# Altium schematic symbol library IC.SchLib: 140 symbols (part 1 of 2)
Pins are listed as number, name and electrical type; pins without a type are passive.

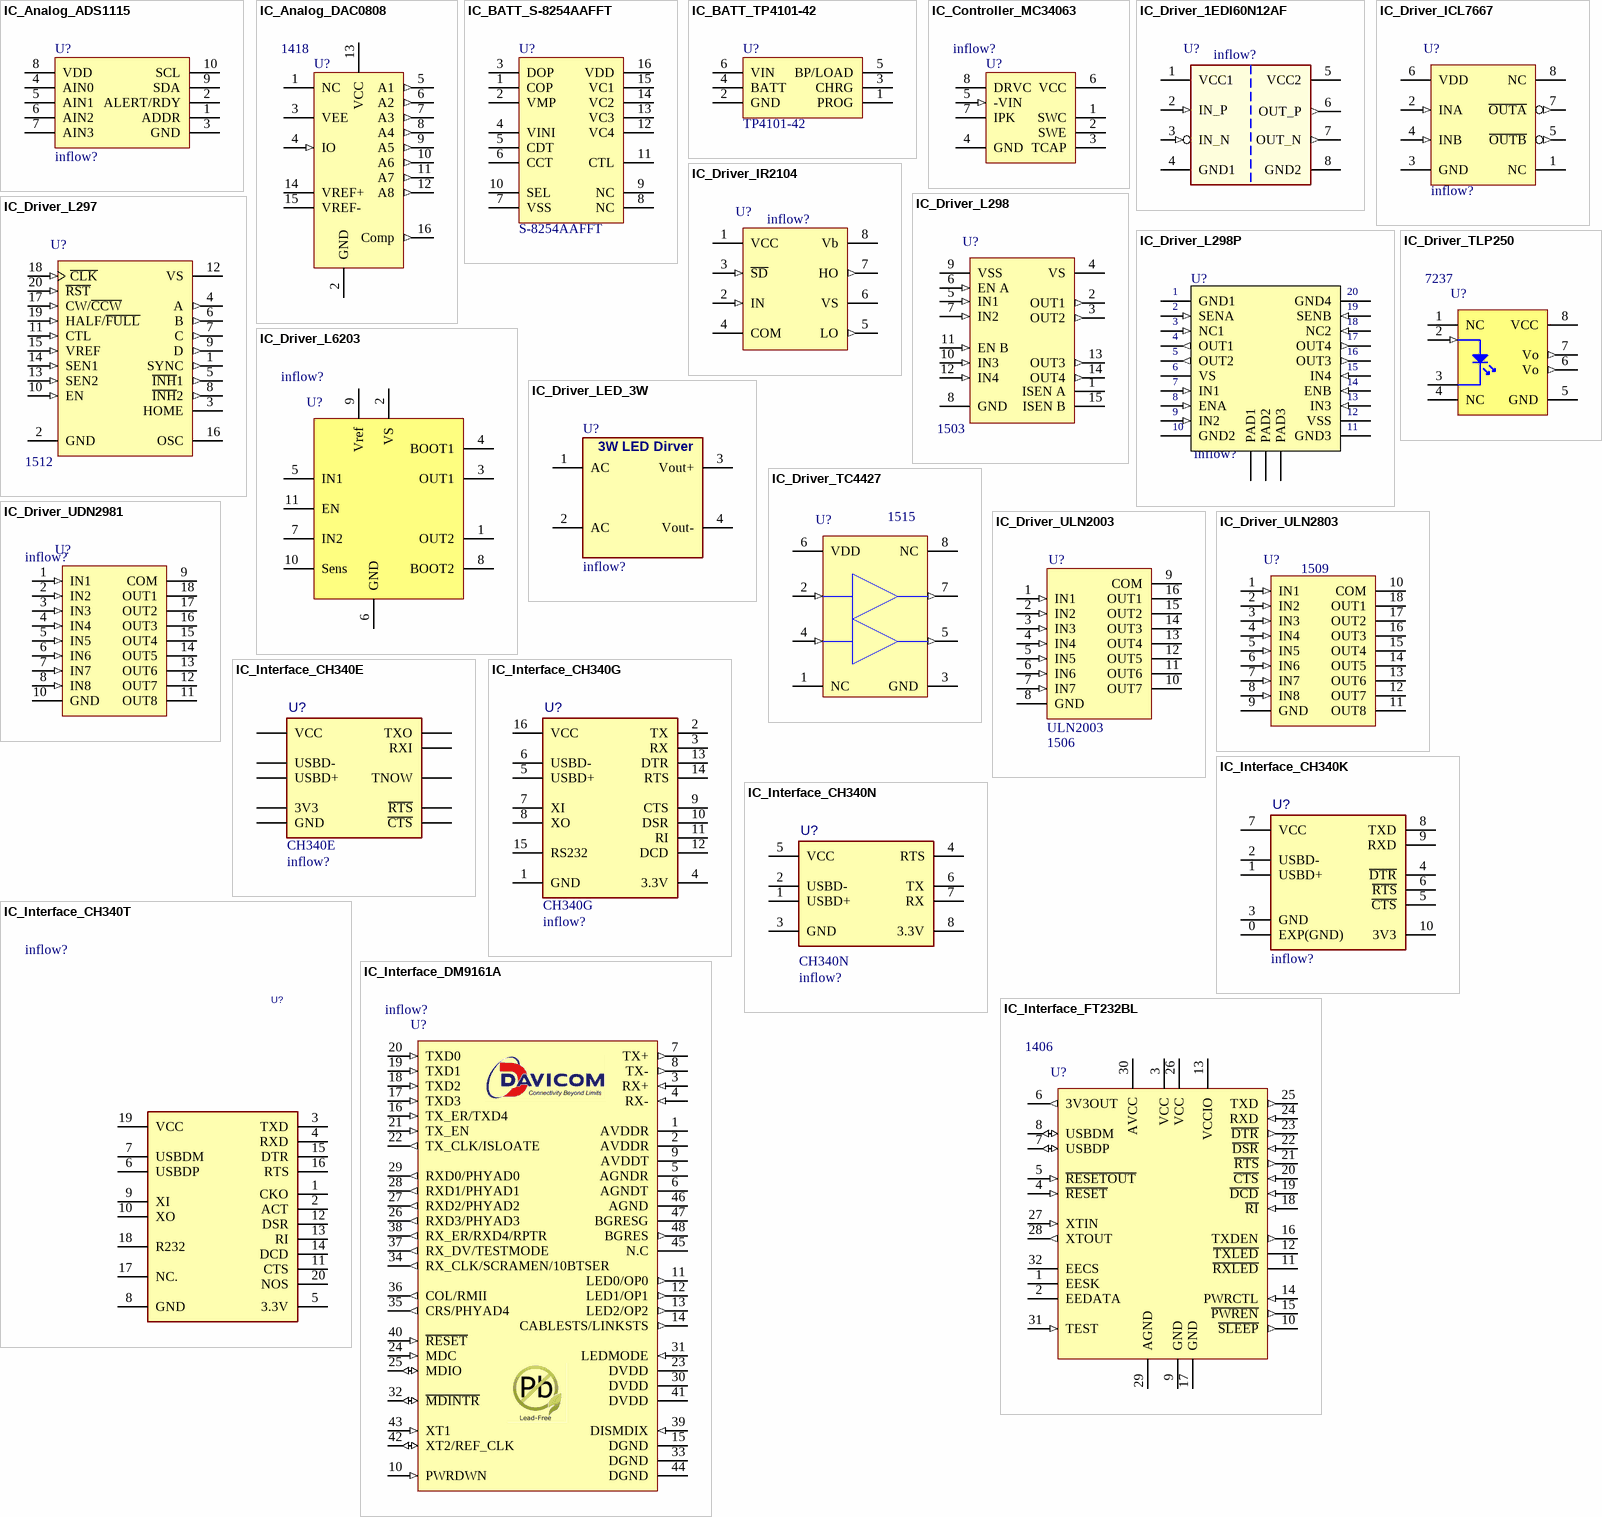
[diagram p0: symbols IC_Analog_ADS1115 to IC_Interface_FT232BL]

## IC_Analog_ADS1115
designator U?, comment Inflow: inflow?  (hidden comment: ADS1115)
16-Bit Analog-to-Digital (ADC) Converter; Rating: Rating?; Validation: NT; Type: ADC; Package: MSOP-10; Value: ADS1115
footprint MSOP-10 (Shrink Small Outline; 10 Leads; Body Width 3 mm; Pitch 0.5 mm)
pins: 1 ADDR, 2 ALERT/RDY, 3 GND, 4 AIN0, 5 AIN1, 6 AIN2, 7 AIN3, 8 VDD, 9 SDA, 10 SCL

## IC_Analog_DAC0808
designator U?, comment Inflow: 1418  (hidden comment: DAC0808)
8-bit monolithic digital-to-analog converter (DAC); Rating: Rating?; Validation: NT; Value: DAC0808; Package: Package?; Type: Type?
footprint PDIP16 (16-Pin Plastic DIP (DD16) NARROW_(300mil width) - 100mil pitch)
pins: 1 NC, 2 GND (power), 3 VEE, 4 IO (in), 5 A1 (out) "LSB", 6 A2 (out), 7 A3 (out), 8 A4 (out), 9 A5 (out), 10 A6 (out), 11 A7 (out), 12 A8 (out) "MSB", 13 VCC (power), 14 VREF+, 15 VREF-, 16 Comp (out) "Compensation"

## IC_BATT_S-8254AAFFT
designator U?, comment S-8254AAFFT
Battery Protection IC for 3 Serial or 4 Serial Cell Pack TSSOP-16; Rating: Rating?; Validation: NT; Inflow: inflow?; Type: BCM; Package: TSSOP-16; Value: S-8254AAFFT
footprint TSSOP16 (16 Pin TSSOP JDEC MO-153 Variation AC)
pins: 1 COP, 2 VMP, 3 DOP, 4 VINI, 5 CDT, 6 CCT, 7 VSS, 8 NC, 9 NC, 10 SEL, 11 CTL, 12 VC4, 13 VC3, 14 VC2, 15 VC1, 16 VDD

## IC_BATT_TP4101-42
designator U?, comment TP4101-42
TP4101 is a Chip That it has Complete Single-Cell Lithium-Ion Battery Charging Management and Discharging Protection.; Rating: Rating?; Validation: NT; Inflow: inflow?; Type: BCM; Package: SOT23-6; Value: TP4101-42
footprint SOT23-6 (SOT-457/SC-74; 6 Leads; Body 3 x 3 mm, inc. leads (LxW max))
pins: 1 PROG, 2 GND, 3 CHRG, 4 BATT, 5 BP/LOAD, 6 VIN

## IC_Controller_MC34063
designator U?, comment Inflow: inflow?  (hidden comment: MC34063AD)
DC-to-DC Converter Control Circuit; Rating: Rating?; Validation: NT; Value: MC34063AD; Package: Package?; Type: Type?
footprint 751-02_N (SOIC, 8-Leads, Body 4.9x3.9mm, Pitch 1.27mm, IPC Medium Density)
footprint 751-02_L (SOIC, 8-Leads, Body 4.9x3.9mm, Pitch 1.27mm, IPC High Density)
footprint 751-02_M (SOIC, 8-Leads, Body 4.9x3.9mm, Pitch 1.27mm, IPC Low Density)
pins: 1 SWC (oc), 2 SWE (oe), 3 TCAP, 4 GND (power), 5 -VIN (in), 6 VCC (power), 7 IPK, 8 DRVC (oc)

## IC_Driver_1EDI60N12AF
designator U?, comment Inflow: inflow?  (hidden comment: 1EDI60N12AF)
Single Channel MOSFET Gate Driver IC; Rating: Rating?; Validation: NT; Value: 1EDI60N12AF; Package: Package?; Type: Type?
footprint 1EDI60N12AF
pins: 1 VCC1 (power) "Positive Logic Supply", 2 IN_P (in) "Non-Inverting Driver Input", 3 IN_N (in) "Inverting Driver Input", 4 GND1 (power) "Logic Ground", 5 VCC2 (power) "Positive Power Supply Output Side", 6 OUT_P (out) "Driver Source Output", 7 OUT_N (out) "Driver Sink Output", 8 GND2 (power) "Power Ground"

## IC_Driver_ICL7667
designator U?, comment Inflow: inflow?  (hidden comment: ICL7667)
Dual monolithic power MOSFET driver; Rating: Rating?; Validation: NT; Value: ICL7667; Package: Package?; Type: Type?
footprint CDIP8 (8-Pin Ceramic DIP (DD8) NARROW_(300mil width) - 100mil pitch)
footprint SOIC8-Narrow (SOIC, 8-Leads, Body 3.0x3.0mm (max), Pitch 1.27mm, IPC Medium Density)
pins: 1 NC, 2 INA (in), 3 GND (power), 4 INB (in), 5 ~{OUTB} (out), 6 VDD (power), 7 ~{OUTA} (out), 8 NC

## IC_Driver_IR2104
designator U?, comment Inflow: inflow?  (hidden comment: IR2085)
high voltage, high speed power. MOSFET and IGBT drivers with dependent high and low side referenced output channels; Rating: Rating?; Validation: NT; Value: IR2085; Package: Package?; Type: Type?
footprint SOIC8-Narrow (SOIC, 8-Leads, Body 3.0x3.0mm (max), Pitch 1.27mm, IPC Medium Density)
footprint PDIP8 (8-Pin Plastic DIP (PD8) NARROW_(300mil width) - 100mil pitch)
pins: 1 VCC (power) "Low side and logic fixed supply (10'V~20'V =~ 15'V)", 2 IN (in) "Logic input for high and low side gate driver outputs (HO and LO), in phase with HO", 3 ~{SD} (in) "Logic input for shutdown", 4 COM (power) "Low Side return (GND)", 5 LO (out) "Low side gate drive output", 6 VS (power) "High side floating supply return", 7 HO (out) "High side gate drive output", 8 Vb (power) "High side floating supply"

## IC_Driver_L297
designator U?, comment Inflow: 1512  (hidden comment: L297)
Stepper motor controller; Rating: Rating?; Validation: NT; Value: L297; Package: Package?; Type: Type?
footprint CDIP20 (20-Pin Ceramic DIP (DD20) NARROW_(300mil width) - 100mil pitch)
pins: 1 SYNC (out), 2 GND (power), 3 HOME (oc), 4 A (out), 5 ~{INH}1 (out), 6 B (out), 7 C (out), 8 ~{INH}2 (out), 9 D (out), 10 EN (in), 11 CTL (in), 12 VS (power), 13 SEN2 (in), 14 SEN1 (in), 15 VREF (in), 16 OSC, 17 CW/~{CCW} (in), 18 ~{CLK} (in), 19 HALF/~{FULL} (in), 20 ~{RST} (in)

## IC_Driver_L298
designator U?, comment Inflow: 1503  (hidden comment: L298)
Dual full-bridge driver; Rating: Rating?; Validation: Valid; Value: L298; Package: Package?; Type: Type?
footprint Multiwatt15H (TO, Thru-Hole, Horizontal, Heatsink Mounted; 15 Bent Staggered Leads; Pitch 1.27 mm)
footprint Multiwatt15V (TO, Thru-Hole, Vertical, Heatsink Mounted; 15 Bent Staggered Leads; Pitch 1.27 mm)
footprint Multiwatt15V_heatsink (TO, Thru-Hole, Vertical, Heatsink Mounted; 15 Bent Staggered Leads; Pitch 1.27 mm)
pins: 1 ISEN A, 2 OUT1 (out), 3 OUT2 (out), 4 VS (power), 5 IN1 (in), 6 EN A (in), 7 IN2 (in), 8 GND (power), 9 VSS (power), 10 IN3 (in), 11 EN B (in), 12 IN4 (in), 13 OUT3 (out), 14 OUT4 (out), 15 ISEN B

## IC_Driver_L298P
designator U?, comment Inflow: inflow?  (hidden comment: L298P)
Dual full-bridge driver; Rating: Rating?; Validation: NT; Value: L298P; Package: Package?; Type: Type?
footprint L298p
pins: P$1 GND1 (power), P$2 SENA (in), P$3 NC1 (in), P$4 OUT1 (out), P$5 OUT2 (out), P$6 VS (power), P$7 IN1 (in), P$8 ENA (in), P$9 IN2 (in), P$10 GND2 (power), P$11 GND3 (power), P$12 VSS (power), P$13 IN3 (in), P$14 ENB (in), P$15 IN4 (in), P$16 OUT3 (out), P$17 OUT4 (out), P$18 NC2 (in), P$19 SENB (in), P$20 GND4 (power), P$21 PAD1, P$22 PAD2, P$23 PAD3
text: 1; 20; 2; 19; 3; 18; 4; 17; 5; 16; 6; 15; 7; 14; 8; 13; 9; 12; 10; 11

## IC_Driver_L6203
designator U?, comment Inflow: inflow?  (hidden comment: L6203)
DMOS FULL BRIDGE DRIVER; Rating: Rating?; Validation: NT; Value: L6203; Package: Package?; Type: Type?
footprint MUlTIWATT11 (Use For L6203)
pins: 1 OUT2, 2 VS, 3 OUT1, 4 BOOT1, 5 IN1, 6 GND, 7 IN2, 8 BOOT2, 9 Vref, 10 Sens, 11 EN

## IC_Driver_LED_3W
designator U?, comment Inflow: inflow?  (hidden comment: Value?)
3Watt Led Driver; Rating: Rating?; Validation: Valid; Type: Type?; Package: Package?; Value: Value?
footprint LED_Driver_3W
pins: 1 AC, 2 AC, 3 Vout+, 4 Vout-
text: 3W LED Dirver

## IC_Driver_TC4427
designator U?, comment Inflow: 1515  (hidden comment: TC4427)
1.5A dual high-speed power MOSFET and IGBT drivers; Rating: Rating?; Validation: Valid; Value: TC4427; Package: Package?; Type: Type?
footprint CDIP8 (8-Pin Ceramic DIP (DD8) NARROW_(300mil width) - 100mil pitch)
footprint SOIC8-Narrow (SOIC, 8-Leads, Body 3.0x3.0mm (max), Pitch 1.27mm, IPC Medium Density)
pins: 1 NC, 2 INA (in), 3 GND (power), 4 INB (in), 5 OUTB (out), 6 VDD (power), 7 OUTA (out), 8 NC

## IC_Driver_TLP250
designator U?, comment Inflow: 7237  (hidden comment: TLP250)
Transistor Inverter Inverter For Air Conditionor IGBT Gate Drive Power MOSFET Gate Drive; Rating: Rating?; Validation: NT; Value: TLP250; Package: Package?; Type: Type?
footprint DIP8
pins: 1 NC, 2 A (in), 3 K, 4 NC, 5 GND, 6 Vo (out), 7 Vo (out), 8 VCC

## IC_Driver_UDN2981
designator U?, comment Inflow: inflow?  (hidden comment: UDN2981)
High-side switching applications; Rating: Rating?; Validation: NT; Value: UDN2981; Package: Package?; Type: Type?
footprint DIP 18
pins: 1 IN1 (in), 2 IN2 (in), 3 IN3 (in), 4 IN4 (in), 5 IN5 (in), 6 IN6 (in), 7 IN7 (in), 8 IN8 (in), 9 COM (power), 10 GND, 11 OUT8, 12 OUT7, 13 OUT6, 14 OUT5, 15 OUT4, 16 OUT3, 17 OUT2, 18 OUT1

## IC_Driver_ULN2003
designator U?, comment Inflow: 1506  (hidden comment: ULN2003)
Seven darlington array drivers; Rating: Rating?; Validation: Valid; Package: SO-16; Type: Driver; Value: ULN2003
footprint SO16_L (16-Pin Small Outline Integrated Circuit 1.27 mm Pitch, IPC High Density - DESIGNER ABBAS BASEREH)
footprint SO16_M (16-Pin Small Outline Integrated Circuit 1.27 mm Pitch, IPC Low Density - DESIGNER ABBAS BASEREH)
footprint SO16_N (16-Pin Small Outline Integrated Circuit 1.27 mm Pitch, IPC Medium Density - DESIGNER ABBAS BASEREH)
footprint CDIP16 (16-Pin Ceramic DIP (DD16) NARROW_(300mil width) - 100mil pitch)
pins: 1 IN1 (in), 2 IN2 (in), 3 IN3 (in), 4 IN4 (in), 5 IN5 (in), 6 IN6 (in), 7 IN7 (in), 8 GND (power), 9 COM, 10 OUT7 (oc), 11 OUT6 (oc), 12 OUT5 (oc), 13 OUT4 (oc), 14 OUT3 (oc), 15 OUT2 (oc), 16 OUT1 (oc)

## IC_Driver_ULN2803
designator U?, comment Inflow: 1509  (hidden comment: ULN2803)
8ch darlington sink drivers; Rating: Rating?; Validation: Valid; Value: ULN2803; Package: Package?; Type: Type?
footprint DIP 18
pins: 1 IN1 (in), 2 IN2 (in), 3 IN3 (in), 4 IN4 (in), 5 IN5 (in), 6 IN6 (in), 7 IN7 (in), 8 IN8 (in), 9 GND (power), 10 COM, 11 OUT8 (oc), 12 OUT7 (oc), 13 OUT6 (oc), 14 OUT5 (oc), 15 OUT4 (oc), 16 OUT3 (oc), 17 OUT2 (oc), 18 OUT1 (oc)

## IC_Interface_CH340E
designator U?, comment Inflow: inflow?  (hidden comment: CH340E)
USB Bus Converter to Serial Port; Rating: Rating?; Validation: NT; Type: USB to TTL; Package: MSOP-10; Value: CH340E
footprint MSOP10
pins: 1 USBD+, 2 USBD-, 3 GND, 4 ~{RTS}, 5 ~{CTS}, 6 TNOW, 7 VCC, 8 TXO, 9 RXI, 10 3V3

## IC_Interface_CH340G
designator U?, comment Inflow: inflow?  (hidden comment: CH340G)
TTL To USB Chip; Rating: Rating?; Validation: Valid; Type: USB to TTL; Package: SO-16; Value: CH340G
footprint SO16_M (16-Pin Small Outline Integrated Circuit 1.27 mm Pitch, IPC Low Density - DESIGNER ABBAS BASEREH)
footprint SO16_L (16-Pin Small Outline Integrated Circuit 1.27 mm Pitch, IPC High Density - DESIGNER ABBAS BASEREH)
footprint SO16_N (16-Pin Small Outline Integrated Circuit 1.27 mm Pitch, IPC Medium Density - DESIGNER ABBAS BASEREH)
pins: 1 GND, 2 TX, 3 RX, 4 3.3V "if VCC=5 => Bypas by 4.7-20nF, if VCC=3.3 => Tie to VCC", 5 USBD+, 6 USBD-, 7 XI, 8 XO, 9 CTS, 10 DSR, 11 RI, 12 DCD, 13 DTR, 14 RTS, 15 RS232, 16 VCC

## IC_Interface_CH340K
designator U?, comment Inflow: inflow?  (hidden comment: CH340K)
TTL To USB Chip; Rating: Rating?; Validation: NT; Type: USB to TTL; Package: SO-8; Value: CH340K
footprint SOP100P600X160-11N
pins: 0 EXP(GND), 1 USBD+, 2 USBD-, 3 GND, 4 ~{DTR}, 5 ~{CTS}, 6 ~{RTS}, 7 VCC, 8 TXD, 9 RXD, 10 3V3

## IC_Interface_CH340N
designator U?, comment Inflow: inflow?  (hidden comment: CH340N)
TTL To USB Chip; Rating: Rating?; Validation: Valid; Type: USB to TTL; Package: SO-8; Value: CH340N
footprint SO8_narrow_m (8-Pin Small Outline Package (SO8), IPC Low Density)
footprint SO8_narrow_L (8-Pin Small Outline Package (SO8), IPC High Density)
footprint SO8_narrow_N (8-Pin Small Outline Package (SO8), IPC Medium Density)
pins: 1 USBD+, 2 USBD-, 3 GND, 4 RTS, 5 VCC, 6 TX, 7 RX, 8 3.3V "if VCC=5 => Bypas by 4.7-20nF, if VCC=3.3 => Tie to VCC"

## IC_Interface_CH340T
designator U?, comment Inflow: inflow?  (hidden comment: CH340T)
TTL To USB Chip; Rating: Rating?; Validation: NT; Value: CH340T; Package: Package?; Type: Type?
footprint SOG65_20_700X530
pins: 1 CKO, 2 ACT, 3 TXD, 4 RXD, 5 3.3V "if VCC=5 => Bypas by 4.7-20nF, if VCC=3.3 => Tie to VCC", 6 USBDP, 7 USBDM, 8 GND, 9 XI, 10 XO, 11 CTS, 12 DSR, 13 RI, 14 DCD, 15 DTR, 16 RTS, 17 NC., 18 R232, 19 VCC, 20 NOS

## IC_Interface_DM9161A
designator U?, comment Inflow: inflow?  (hidden comment: DM9161)
10/100 Mbps Fast Ethernet  Physical Layer Single Chip Transceiver; Rating: Rating?; Validation: NT; Value: DM9161; Package: Package?; Type: Type?
footprint LQFP48_N (LQFP, 48-Leads, Body 9.1x9.1mm (max), Pitch 0.50mm, IPC Medium Density)
footprint LQFP48_M (LQFP, 48-Leads, Body 9.1x9.1mm (max), Pitch 0.50mm, IPC Low Density)
footprint LQFP48_L (LQFP, 48-Leads, Body 9.1x9.1mm (max), Pitch 0.50mm, IPC High Density)
pins: 1 AVDDR (power), 2 AVDDR (power), 3 RX+ (in), 4 RX- (in), 5 AGNDR (power), 6 AGNDT (power), 7 TX+ (out), 8 TX- (out), 9 AVDDT (power), 10 PWRDWN (in), 11 LED0/OP0 (out), 12 LED1/OP1 (out), 13 LED2/OP2 (out), 14 CABLESTS/LINKSTS (out), 15 DGND (power), 16 TX_ER/TXD4 (in), 17 TXD3 (in), 18 TXD2 (in), 19 TXD1 (in), 20 TXD0 (in), 21 TX_EN (in), 22 TX_CLK/ISLOATE (out), 23 DVDD (power), 24 MDC (in), 25 MDIO (io), 26 RXD3/PHYAD3 (out), 27 RXD2/PHYAD2 (out), 28 RXD1/PHYAD1 (out), 29 RXD0/PHYAD0 (out), 30 DVDD (power), 31 LEDMODE (in), 32 ~{MDINTR} (io), 33 DGND (power), 34 RX_CLK/SCRAMEN/10BTSER (out), 35 CRS/PHYAD4 (out), 36 COL/RMII (out), 37 RX_DV/TESTMODE (out), 38 RX_ER/RXD4/RPTR (out), 39 DISMDIX (in), 40 ~{RESET} (in), 41 DVDD (power), 42 XT2/REF_CLK (io), 43 XT1 (in), 44 DGND (power), 45 N.C, 46 AGND (power), 47 BGRESG (power), 48 BGRES (out)

## IC_Interface_FT232BL
designator U?, comment Inflow: 1406  (hidden comment: FT232BL)
USB UART Asynchronous Serial Data Transfer Chip, SSOP-28, Tape and Reel; Rating: Rating?; Validation: NT; Value: FT232BL; Package: Package?; Type: Type?
footprint TQFP-32
pins: 1 EESK, 2 EEDATA, 3 VCC (power), 4 ~{RESET} (in), 5 ~{RESETOUT} (in), 6 3V3OUT (out), 7 USBDP (io), 8 USBDM (io), 9 GND (power), 10 ~{SLEEP} (out), 11 ~{RXLED} (oc), 12 ~{TXLED} (oc), 13 VCCIO (power), 14 PWRCTL (in), 15 ~{PWREN} (out), 16 TXDEN (out), 17 GND (power), 18 ~{RI} (in), 19 ~{DCD} (in), 20 ~{CTS} (in), 21 ~{RTS} (out), 22 ~{DSR} (in), 23 ~{DTR} (out), 24 RXD (in), 25 TXD (out), 26 VCC (power), 27 XTIN (in), 28 XTOUT (out), 29 AGND (power), 30 AVCC (power), 31 TEST (in), 32 EECS

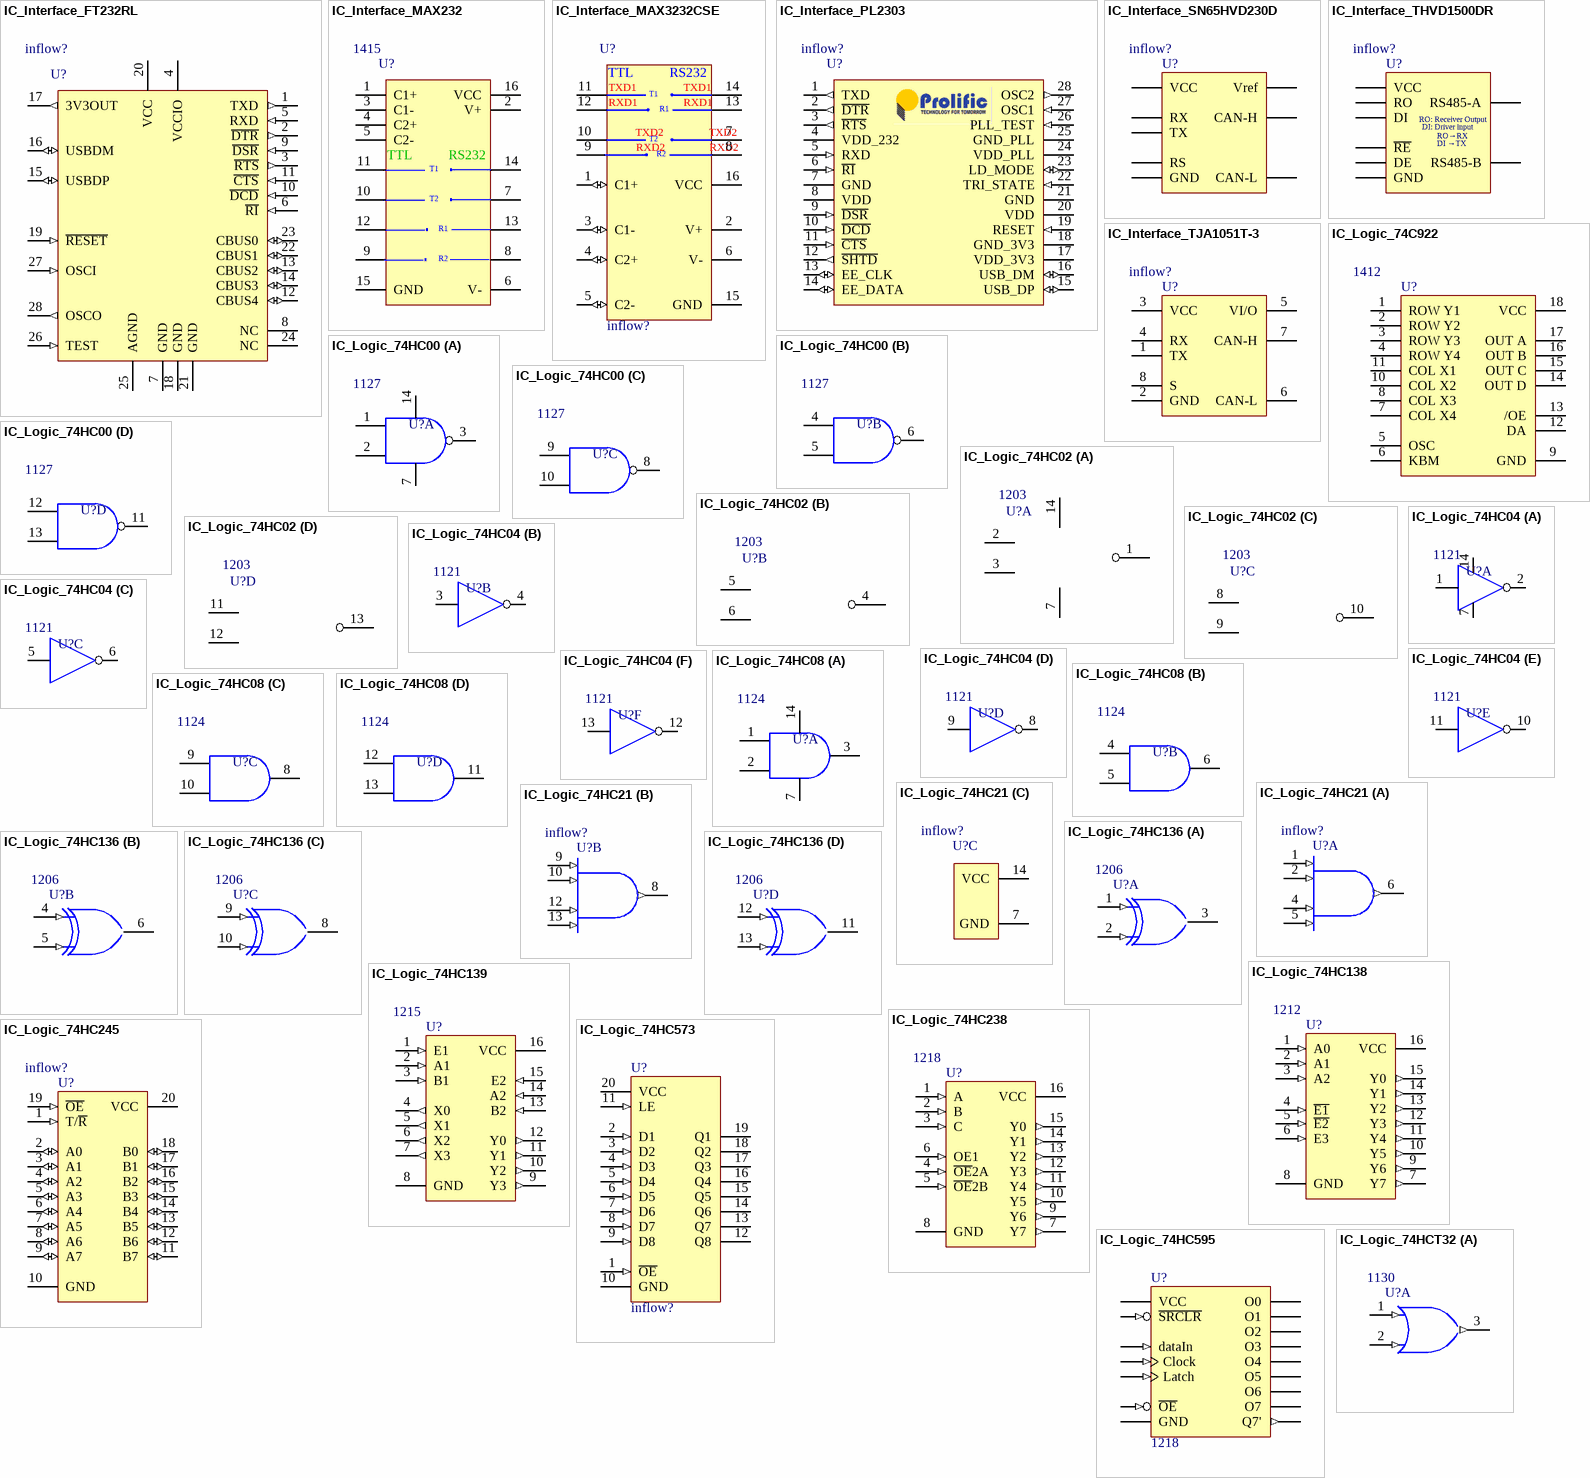
[diagram p1: symbols IC_Interface_FT232RL to IC_Logic_74HCT32]

## IC_Interface_FT232RL
designator U?, comment Inflow: inflow?  (hidden comment: FT232RL)
USB UART Asynchronous Serial Data Transfer Chip, SSOP-28, Tape and Reel; Rating: Rating?; Validation: Valid; Value: FT232RL; Package: Package?; Type: Type?
footprint SSOP-28_N (SOP, 28-Leads, Body 10.2x5.3mm, Pitch 0.65mm, IPC Medium Density)
footprint SSOP-28_L (SOP, 28-Leads, Body 10.2x5.3mm, Pitch 0.65mm, IPC High Density)
footprint SSOP-28_M (SOP, 28-Leads, Body 10.2x5.3mm, Pitch 0.65mm, IPC Low Density)
pins: 1 TXD (out), 2 ~{DTR} (out), 3 ~{RTS} (out), 4 VCCIO (power), 5 RXD (in), 6 ~{RI} (in), 7 GND (power), 8 NC, 9 ~{DSR} (in), 10 ~{DCD} (in), 11 ~{CTS} (in), 12 CBUS4 (io), 13 CBUS2 (io), 14 CBUS3 (io), 15 USBDP (io), 16 USBDM (io), 17 3V3OUT (out), 18 GND (power), 19 ~{RESET} (in), 20 VCC (power), 21 GND (power), 22 CBUS1 (io), 23 CBUS0 (io), 24 NC, 25 AGND (power), 26 TEST (in), 27 OSCI (in), 28 OSCO (out)

## IC_Interface_MAX232
designator U?, comment Inflow: 1415  (hidden comment: Max232)
RS-232 Driver/Receiver; Rating: Rating?; Validation: NT; Value: Max232; Package: Package?; Type: Type?
footprint PDIP16 (16-Pin Plastic DIP (DD16) NARROW_(300mil width) - 100mil pitch)
footprint NSO16_L (SOIC, 16-Leads, Body 9.9x3.9mm, Pitch 1.27mm, IPC High Density)
footprint NSO16_M (SOIC, 16-Leads, Body 9.9x3.9mm, Pitch 1.27mm, IPC Low Density)
footprint NSO16_N (SOIC, 16-Leads, Body 9.9x3.9mm, Pitch 1.27mm, IPC Medium Density)
footprint CDIP16 (16-Pin Ceramic DIP (DD16) NARROW_(300mil width) - 100mil pitch)
pins: 1 C1+, 2 V+, 3 C1-, 4 C2+, 5 C2-, 6 V-, 7 T2OUT, 8 R2IN, 9 R2OUT, 10 T2IN, 11 T1IN, 12 R1OUT, 13 R1IN, 14 T1OUT, 15 GND (power), 16 VCC (power)
text: TTL; RS232; T1; T2; R1; R2

## IC_Interface_MAX3232CSE
designator U?, comment Inflow: inflow?  (hidden comment: MAX3232)
RS-232 Interface IC 3.0V to 5.5V, Low-Power, up to 1Mbps, True RS-232 Transceivers Using Four 0.1uF External Capacitors; Rating: Rating?; Validation: Valid; Value: MAX3232; Package: SOIC-16; Type: RS232
footprint NSO16_L (SOIC, 16-Leads, Body 9.9x3.9mm, Pitch 1.27mm, IPC High Density)
footprint NSO16_M (SOIC, 16-Leads, Body 9.9x3.9mm, Pitch 1.27mm, IPC Low Density)
footprint NSO16_N (SOIC, 16-Leads, Body 9.9x3.9mm, Pitch 1.27mm, IPC Medium Density)
pins: 1 C1+ (io), 2 V+ (power), 3 C1- (io), 4 C2+ (io), 5 C2- (io), 6 V- (power), 7 T2OUT, 8 R2IN, 9 R2OUT, 10 T2IN, 11 T1IN, 12 R1OUT, 13 R1IN, 14 T1OUT, 15 GND (power), 16 VCC (power)
text: TTL; TXD1; T1; RXD1; R1; TXD2; T2; RXD2; R2

## IC_Interface_PL2303
designator U?, comment Inflow: inflow?  (hidden comment: PL2303)
USB to Serial RS232 Bridge Controller; Rating: Rating?; Validation: NT; Value: PL2303; Package: Package?; Type: Type?
footprint SSOP28_N (Footprint not found)
footprint SSOP28_n (SSOP, 28-Leads, Body 10.2x5.3mm, Pitch 0.65mm, IPC Medium Density)
footprint SSOP28_L (SSOP, 28-Leads, Body 10.2x5.3mm, Pitch 0.65mm, IPC High Density)
pins: 1 TXD (out), 2 ~{DTR} (out), 3 ~{RTS} (out), 4 VDD_232 (power), 5 RXD (in), 6 ~{RI} (in), 7 GND (power), 8 VDD (power), 9 ~{DSR} (in), 10 ~{DCD} (in), 11 ~{CTS} (in), 12 ~{SHTD} (out), 13 EE_CLK (io), 14 EE_DATA (io), 15 USB_DP (io), 16 USB_DM (io), 17 VDD_3V3 (power), 18 GND_3V3 (power), 19 RESET (in), 20 VDD (power), 21 GND (power), 22 TRI_STATE (in), 23 LD_MODE (io), 24 VDD_PLL (power), 25 GND_PLL (power), 26 PLL_TEST (in), 27 OSC1 (in), 28 OSC2 (out)

## IC_Interface_SN65HVD230D
designator U?, comment Inflow: inflow?  (hidden comment: SN65HVD230D)
CAN Bus Transceivers; Rating: 1Mbits/s; Validation: Valid; Value: SN65HVD230D; Package: SOIC-8; Type: CAN-HS
footprint SO8_narrow_L (8-Pin Small Outline Package (SO8), IPC High Density)
footprint SO8_narrow_M (8-Pin Small Outline Package (SO8), IPC Low Density)
footprint SO8_narrow_N (8-Pin Small Outline Package (SO8), IPC Medium Density)
pins: 1 TX (oc), 2 GND (power), 3 VCC (power), 4 RX (oc), 5 Vref, 6 CAN-L, 7 CAN-H, 8 RS (oe)

## IC_Interface_THVD1500DR
designator U?, comment Inflow: inflow?  (hidden comment: THVD1500DR)
RS-485 Transceiver up to 500kbps With ±8-kV IEC ESD Protection; Rating: 500Kbits/Sec; Validation: Valid; Value: THVD1500DR; Package: SOIC-8; Type: RS-485
footprint SO8_narrow_L (8-Pin Small Outline Package (SO8), IPC High Density)
footprint SO8_narrow_M (8-Pin Small Outline Package (SO8), IPC Low Density)
footprint SO8_narrow_N (8-Pin Small Outline Package (SO8), IPC Medium Density)
pins: 1 RO (oc), 2 ~{RE} (oe), 3 DE, 4 DI (oc), 5 GND (power), 6 RS485-A, 7 RS485-B, 8 VCC (power)
text: RO: Receiver Output; DI: Driver input; RO→RX; DI →TX

## IC_Interface_TJA1051T-3
designator U?, comment Inflow: inflow?  (hidden comment: TJA1051T-3)
High-Speed CAN Transceiver That Provides an Interface Between a CAN Protocol Controller and The Physical Two-Wire CAN Bus.; Rating: 5Mbits/s; Validation: NT; Value: TJA1051T-3; Package: SOIC-8; Type: CAN-FD
footprint SO8_narrow_L (8-Pin Small Outline Package (SO8), IPC High Density)
footprint SO8_narrow_M (8-Pin Small Outline Package (SO8), IPC Low Density)
footprint SO8_narrow_N (8-Pin Small Outline Package (SO8), IPC Medium Density)
pins: 1 TX (oc), 2 GND (power), 3 VCC (power), 4 RX (oc), 5 VI/O, 6 CAN-L, 7 CAN-H, 8 S (oe)

## IC_Logic_74C922
designator U?, comment Inflow: 1412  (hidden comment: Key encoder)
16-Key Encoder; Rating: Rating?; Validation: NT; Value: Key encoder; Package: Package?; Type: Type?
footprint DIP18
pins: 1 ROW Y1, 2 ROW Y2, 3 ROW Y3, 4 ROW Y4, 5 OSC, 6 KBM, 7 COL X4, 8 COL X3, 9 GND (power), 10 COL X2, 11 COL X1, 12 DA, 13 /OE, 14 OUT D, 15 OUT C, 16 OUT B, 17 OUT A, 18 VCC (power)

## IC_Logic_74HC00
designator U?, comment Inflow: 1127  (hidden comment: Nand)
Quad 2 Input NAND Gate; Rating: Rating?; Validation: NT; Value: Nand; Package: Package?; Type: Type?
footprint DIP14
part A pins: 1, 2, 3, 7 GND (power), 14 VCC (power)
part B pins: 4, 5, 6
part C pins: 8, 9, 10
part D pins: 11, 12, 13

## IC_Logic_74HC02
designator U?, comment Inflow: 1203  (hidden comment: Nor)
Quad 2 Input NOR Gate; Rating: Rating?; Validation: NT; Value: Nor; Package: Package?; Type: Type?
footprint PDIP14 (14-Pin Plastic DIP (DD14) NARROW_(300mil width) - 100mil pitch)
part A pins: 1 3, 2 1, 3 1, 7 GND (power), 14 VCC (power)
part B pins: 4 3, 5 1, 6 1
part C pins: 8 1, 9 1, 10 3
part D pins: 11 1, 12 1, 13 3

## IC_Logic_74HC04
designator U?, comment Inflow: 1121  (hidden comment: Not)
Hex Inverter; Rating: Rating?; Validation: NT; Value: Not; Package: Package?; Type: Type?
footprint PDIP14 (14-Pin Plastic DIP (DD14) NARROW_(300mil width) - 100mil pitch)
part A pins: 1, 2, 7 GND (power), 14 VCC (power)
part B pins: 3, 4
part C pins: 5, 6
part D pins: 8, 9
part E pins: 10, 11
part F pins: 12, 13

## IC_Logic_74HC08
designator U?, comment Inflow: 1124  (hidden comment: And)
Quad 2 Input AND Gate; Rating: Rating?; Validation: NT; Value: And; Package: Package?; Type: Type?
footprint dip14
part A pins: 1, 2, 3, 7 GND (power), 14 VCC (power)
part B pins: 4, 5, 6
part C pins: 8, 9, 10
part D pins: 11, 12, 13

## IC_Logic_74HC21
designator U?, comment Inflow: inflow?  (hidden comment: And)
Dual 4-Input AND Gate; Rating: Rating?; Validation: NT; Value: And; Package: Package?; Type: Type?
footprint SO14_Narrow_N
footprint SO14_Narrow_L
footprint SO14_Narrow_M
footprint CDIP14 (14-Pin Ceramic DIP (DD14) NARROW_(300mil width) - 100mil pitch)
footprint PDIP14 (14-Pin Plastic DIP (DD14) NARROW_(300mil width) - 100mil pitch)
part A pins: 1 A (in), 2 B (in), 4 C (in), 5 D (in), 6 Y (out)
part B pins: 8 Y (out), 9 A (in), 10 B (in), 12 C (in), 13 D (in)
part C pins: 7 GND (power), 14 VCC (power)

## IC_Logic_74HC136
designator U?, comment Inflow: 1206  (hidden comment: Xor)
Quadruple 2-Input Exclusive-OR Gate with Open-Collector Outputs; Rating: Rating?; Validation: NT; Value: Xor; Package: Package?; Type: Type?
footprint PDIP14 (14-Pin Plastic DIP (DD14) NARROW_(300mil width) - 100mil pitch)
pins on every part: 7 GND (power) hidden to GND, 14 VCC (power) hidden to VCC
part A pins: 1 A (in), 2 B (in), 3 Z (oc)
part B pins: 4 A (in), 5 B (in), 6 Z (oc)
part C pins: 8 Z (oc), 9 A (in), 10 B (in)
part D pins: 11 Z (oc), 12 A (in), 13 B (in)

## IC_Logic_74HC138
designator U?, comment Inflow: 1212  (hidden comment: Decoder, 3 to 8)
3-to-8 Line Decoder; Rating: Rating?; Validation: NT; Value: Decoder, 3 to 8; Package: Package?; Type: Type?
footprint PDIP16 (16-Pin Plastic DIP (DD16) NARROW_(300mil width) - 100mil pitch)
pins: 1 A0 (in), 2 A1 (in), 3 A2 (in), 4 ~{E1} (in), 5 ~{E2} (in), 6 E3 (in), 7 Y7 (out), 8 GND (power), 9 Y6 (out), 10 Y5 (out), 11 Y4 (out), 12 Y3 (out), 13 Y2 (out), 14 Y1 (out), 15 Y0 (out), 16 VCC (power)

## IC_Logic_74HC139
designator U?, comment Inflow: 1215  (hidden comment: Decoder, 2 to 4)
Dual 2-to-4 Line Decoder; Rating: Rating?; Validation: NT; Value: Decoder, 2 to 4; Package: Package?; Type: Type?
footprint PDIP16 (16-Pin Plastic DIP (DD16) NARROW_(300mil width) - 100mil pitch)
pins: 1 E1 (in), 2 A1 (in), 3 B1 (in), 4 X0 (out), 5 X1 (out), 6 X2 (out), 7 X3 (out), 8 GND (power), 9 Y3 (out), 10 Y2 (out), 11 Y1 (out), 12 Y0 (out), 13 B2 (in), 14 A2 (in), 15 E2 (in), 16 VCC (power)

## IC_Logic_74HC238
designator U?, comment Inflow: 1218  (hidden comment: Decoder, 3 to 8)
3-to-8 Line Decoder; Rating: Rating?; Validation: NT; Value: Decoder, 3 to 8; Package: Package?; Type: Type?
footprint PDIP16 (16-Pin Plastic DIP (DD16) NARROW_(300mil width) - 100mil pitch)
pins: 1 A (in), 2 B (in), 3 C (in), 4 ~{OE}2A (in), 5 ~{OE}2B (in), 6 OE1 (in), 7 Y7 (out), 8 GND (power), 9 Y6 (out), 10 Y5 (out), 11 Y4 (out), 12 Y3 (out), 13 Y2 (out), 14 Y1 (out), 15 Y0 (out), 16 VCC (power)

## IC_Logic_74HC245
designator U?, comment Inflow: inflow?  (hidden comment: 3-State Non-Inverting)
Octal Bus Transceiver 3-State Non-Inverting; Rating: Rating?; Validation: NT; Value: 3-State Non-Inverting; Package: Package?; Type: Type?
footprint SO20_N (SOIC, 20-Leads, Body 12.8x7.5mm, Pitch 1.27mm, IPC Medium Density)
footprint SO20_L (SOIC, 20-Leads, Body 12.8x7.5mm, Pitch 1.27mm, IPC High Density)
footprint SO20_M (SOIC, 20-Leads, Body 12.8x7.5mm, Pitch 1.27mm, IPC Low Density)
footprint CDIP20 (20-Pin Ceramic DIP (DD20) NARROW_(300mil width) - 100mil pitch)
footprint PDIP20 (20-Pin Plastic DIP (DD20) NARROW_(300mil width) - 100mil pitch)
pins: 1 T/~{R} (in), 2 A0 (io), 3 A1 (io), 4 A2 (io), 5 A3 (io), 6 A4 (io), 7 A5 (io), 8 A6 (io), 9 A7 (io), 10 GND (power), 11 B7 (io), 12 B6 (io), 13 B5 (io), 14 B4 (io), 15 B3 (io), 16 B2 (io), 17 B1 (io), 18 B0 (io), 19 ~{OE} (in), 20 VCC (power)

## IC_Logic_74HC573
designator U?, comment Inflow: inflow?  (hidden comment: 74HC573)
Octal D-Type Latch with 3-State Output Non-Inverting; Rating: D Type; Validation: NT; Value: 74HC573; Package: Dip; Type: Latch
footprint PDIP20 (20-Pin Plastic DIP (DD20) NARROW_(300mil width) - 100mil pitch)
footprint SO20_WIDE_M (20-Pin Small Outline Package (SO20), IPC Low Density)
pins: 1 ~{OE} (in), 2 D1 (in), 3 D2 (in), 4 D3 (in), 5 D4 (in), 6 D5 (in), 7 D6 (in), 8 D7 (in), 9 D8 (in), 10 GND (power), 11 LE (in), 12 Q8 (hiz), 13 Q7 (hiz), 14 Q6 (hiz), 15 Q5 (hiz), 16 Q4 (hiz), 17 Q3 (hiz), 18 Q2 (hiz), 19 Q1 (hiz), 20 VCC (power)

## IC_Logic_74HC595
designator U?, comment Inflow: 1218  (hidden comment: Shift Out)
8Bit Shift Regitser; Rating: 8b; Validation: NT; Value: Shift Out; Package: Dip; Type: Shift Regitser
footprint PDIP16 (16-Pin Plastic DIP (DD16) NARROW_(300mil width) - 100mil pitch)
footprint SO16_M (16-Pin Small Outline Integrated Circuit 1.27 mm Pitch, IPC Low Density - DESIGNER ABBAS BASEREH)
pins: 1 O1 (hiz) "B", 2 O2 (hiz) "C", 3 O3 (hiz) "D", 4 O4 (hiz) "E", 5 O5 (hiz) "F", 6 O6 (hiz) "G", 7 O7 (hiz) "H", 8 GND, 9 Q7' (out) "Serial outPut", 10 ~{SRCLR} (in) "VCC", 11 Clock (in) "SRCLK", 12 Latch (in) "RCLK", 13 ~{OE} (in) "GND", 14 dataIn (in) "SER", 15 O0 (hiz) "A", 16 VCC

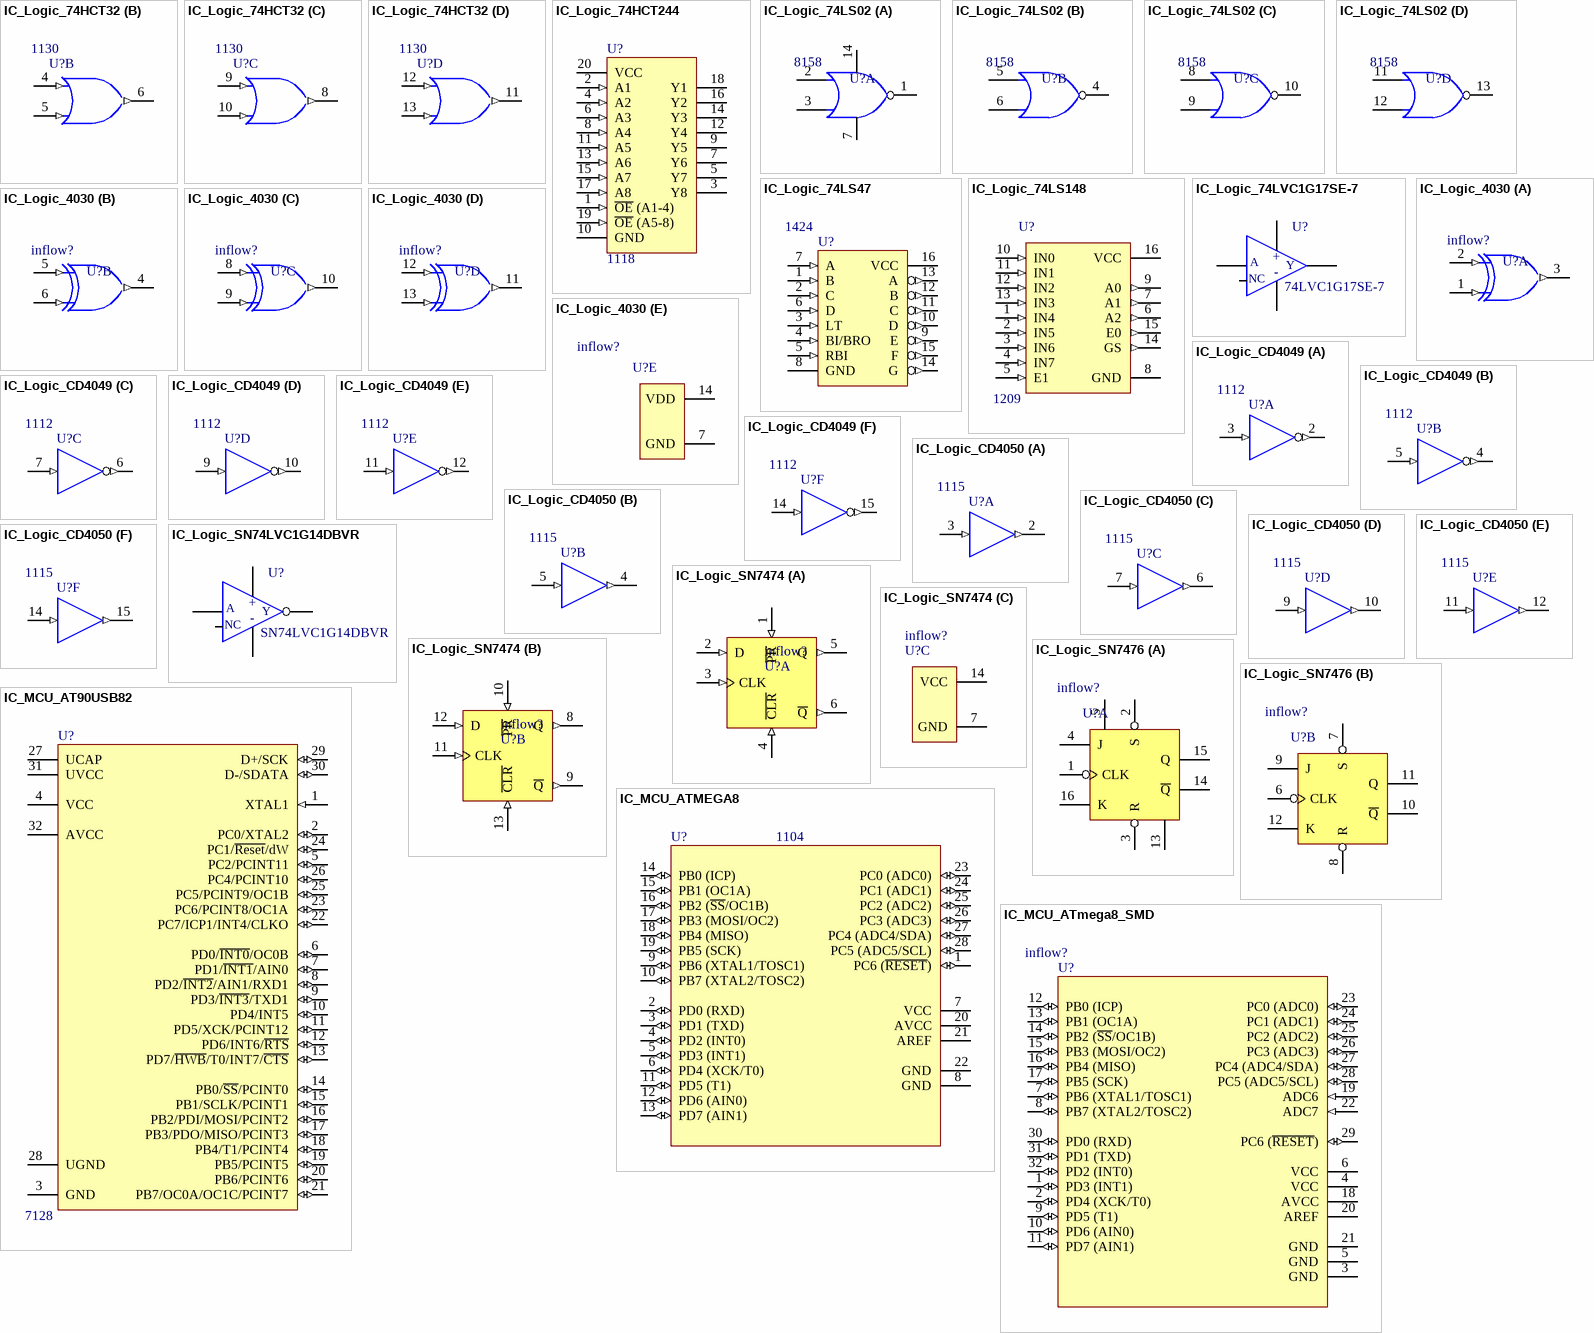
[diagram p2: symbols IC_Logic_74HCT32 to IC_MCU_ATmega8_SMD]

## IC_Logic_74HCT32
designator U?, comment Inflow: 1130  (hidden comment: OR)
Quadruple 2-Input Positive-OR Gate; Rating: Rating?; Validation: NT; Value: OR; Package: Package?; Type: Type?
footprint PDIP14 (14-Pin Plastic DIP (DD14) NARROW_(300mil width) - 100mil pitch)
pins on every part: 7 GND (power) hidden to GND, 14 VCC (power) hidden to VCC
part A pins: 1 A (in), 2 B (in), 3 Y (out)
part B pins: 4 A (in), 5 B (in), 6 Y (out)
part C pins: 8 Y (out), 9 A (in), 10 B (in)
part D pins: 11 Y (out), 12 A (in), 13 B (in)

## IC_Logic_74HCT244
designator U?, comment Inflow: 1118  (hidden comment: 74HCT244)
Octal Bus Buffer with 3 State Outputs (Non Inverted); Rating: 8b; Validation: NT; Type: 3-State Non-Inverting; Package: Dip; Value: 74HCT244
footprint SO20_N (SOIC, 20-Leads, Body 12.8x7.5mm, Pitch 1.27mm, IPC Medium Density)
footprint SO20_L (SOIC, 20-Leads, Body 12.8x7.5mm, Pitch 1.27mm, IPC High Density)
footprint SO20_M (SOIC, 20-Leads, Body 12.8x7.5mm, Pitch 1.27mm, IPC Low Density)
footprint PDIP20 (20-Pin Plastic DIP (DD20) NARROW_(300mil width) - 100mil pitch)
pins: 1 ~{OE} (A1-4) (in), 2 A1 (in), 3 Y8 (hiz), 4 A2 (in), 5 Y7 (hiz), 6 A3 (in), 7 Y6 (hiz), 8 A4 (in), 9 Y5 (hiz), 10 GND (power), 11 A5 (in), 12 Y4 (hiz), 13 A6 (in), 14 Y3 (hiz), 15 A7 (in), 16 Y2 (hiz), 17 A8 (in), 18 Y1 (hiz), 19 ~{OE} (A5-8) (in), 20 VCC (power)

## IC_Logic_74LS02
designator U?, comment Inflow: 8158  (hidden comment: Nor)
Quad 2 Input NOR Gate; Rating: Rating?; Validation: NT; Value: Nor; Package: Package?; Type: Type?
footprint PDIP14 (14-Pin Plastic DIP (DD14) NARROW_(300mil width) - 100mil pitch)
footprint CDIP14 (14-Pin Ceramic DIP (DD14) NARROW_(300mil width) - 100mil pitch)
part A pins: 1, 2, 3, 7 GND, 14 VCC
part B pins: 4, 5, 6
part C pins: 8, 9, 10
part D pins: 11, 12, 13

## IC_Logic_74LS47
designator U?, comment Inflow: 1424  (hidden comment: Decoder, BCD to 7Segment)
BCD To 7 Segment Decoder / Driver; Rating: Rating?; Validation: NT; Value: Decoder, BCD to 7Segment; Package: Package?; Type: Type?
footprint PDIP16 (16-Pin Plastic DIP (DD16) NARROW_(300mil width) - 100mil pitch)
pins: 1 B (in), 2 C (in), 3 LT (in), 4 BI/BRO (in), 5 RBI (in) "LSB", 6 D (in), 7 A (in), 8 GND (power), 9 E (out), 10 D (out), 11 C (out), 12 B (out) "MSB", 13 A (out) "Compensation", 14 G (out), 15 F (out), 16 VCC (power)

## IC_Logic_74LS148
designator U?, comment Inflow: 1209  (hidden comment: Ecoder, 10 to 4)
10 line to 4 line and 8 line to 3 line ecoder; Rating: Rating?; Validation: NT; Value: Ecoder, 10 to 4; Package: Package?; Type: Type?
footprint SO16_L (16-Pin Small Outline Integrated Circuit 1.27 mm Pitch, IPC High Density - DESIGNER ABBAS BASEREH)
footprint SO16_M (16-Pin Small Outline Integrated Circuit 1.27 mm Pitch, IPC Low Density - DESIGNER ABBAS BASEREH)
footprint SO16_N (16-Pin Small Outline Integrated Circuit 1.27 mm Pitch, IPC Medium Density - DESIGNER ABBAS BASEREH)
footprint CDIP16 (16-Pin Ceramic DIP (DD16) NARROW_(300mil width) - 100mil pitch)
pins: 1 IN4 (in), 2 IN5 (in), 3 IN6 (in), 4 IN7 (in), 5 E1 (in), 6 A2 (out), 7 A1 (out), 8 GND (power), 9 A0 (out), 10 IN0 (in), 11 IN1 (in), 12 IN2 (in), 13 IN3 (in), 14 GS (out), 15 E0 (out), 16 VCC (oc)

## IC_Logic_74LVC1G17SE-7
designator U?, comment 74LVC1G17SE-7
Single Schmitt-Trigger Buffer; Validation: NT; Rating: Rating?; Inflow: inflow?; Type: Schmitt-Trigger; Package: SOT-353; Value: 74LVC1G17SE-7
footprint SOT353-1 (SOT23, 5-Leads, Body 2.05x2.13mm, Pitch 0.65mm, IPC Medium Density(TSSOP5))
pins: 1 NC, 2 A, 3 GND, 4 Y, 5 VCC
text: +; -

## IC_Logic_4030
designator U?, comment Inflow: inflow?  (hidden comment: Xor)
Quad XOR Gate; Rating: Rating?; Validation: NT; Value: Xor; Package: Package?; Type: Type?
footprint DIP14
footprint SO14_NARROW_L
footprint SO14_NARROW_M
footprint SO14_NARROW_N
part A pins: 1 B (in), 2 A (in), 3 J (out)
part B pins: 4 K (out), 5 C (in), 6 D (in)
part C pins: 8 E (in), 9 F (in), 10 L (out)
part D pins: 11 M (out), 12 G (in), 13 H (in)
part E pins: 7 GND (power), 14 VDD (power)

## IC_Logic_CD4049
designator U?, comment Inflow: 1112  (hidden comment: Not)
Hex Inverting Buffer/Logic-Level Down Converter; Rating: Rating?; Validation: NT; Value: Not; Package: Package?; Type: Type?
footprint PDIP16 (16-Pin Plastic DIP (DD16) NARROW_(300mil width) - 100mil pitch)
pins on every part: 1 VDD (power) hidden to VDD, 8 GND (power) hidden to GND
part A pins: 2 Y (out), 3 A (in)
part B pins: 4 Y (out), 5 A (in)
part C pins: 6 Y (out), 7 A (in)
part D pins: 9 A (in), 10 Y (out)
part E pins: 11 A (in), 12 Y (out)
part F pins: 14 A (in), 15 Y (out)

## IC_Logic_CD4050
designator U?, comment Inflow: 1115  (hidden comment: Buffer)
Hex Non-Inverting Buffer/Logic-Level Down Converter; Rating: Rating?; Validation: NT; Value: Buffer; Package: Package?; Type: Type?
footprint PDIP16 (16-Pin Plastic DIP (DD16) NARROW_(300mil width) - 100mil pitch)
pins on every part: 1 VDD (power) hidden to VDD, 8 GND (power) hidden to GND
part A pins: 2 Y (out), 3 A (in)
part B pins: 4 Y (out), 5 A (in)
part C pins: 6 Y (out), 7 A (in)
part D pins: 9 A (in), 10 Y (out)
part E pins: 11 A (in), 12 Y (out)
part F pins: 14 A (in), 15 Y (out)

## IC_Logic_SN74LVC1G14DBVR
designator U?, comment SN74LVC1G14DBVR
Single Schmitt-Trigger Inverter; Validation: NT; Rating: Rating?; Inflow: inflow?; Type: Schmitt-Trigger; Package: SOT-23-5; Value: SN74LVC1G14DBVR
footprint SOT-23-5 (SOT-23/SC-74A; 5 Leads; Body 3 x 3 mm, inc. leads (LxW max))
pins: 1 NC, 2 A, 3 GND, 4 Y, 5 VCC
text: +; -

## IC_Logic_SN7474
designator U?, comment Inflow: inflow?  (hidden comment: D, flipflop)
Dual D Flip Flop; Rating: Rating?; Validation: NT; Value: D, flipflop; Package: Package?; Type: Type?
footprint dip14
part A pins: 1 ~{PR} (in), 2 D (in), 3 CLK (in), 4 ~{CLR} (in), 5 Q (out), 6 ~{Q} (out)
part B pins: 8 Q (out), 9 ~{Q} (out), 10 ~{PR} (in), 11 CLK (in), 12 D (in), 13 ~{CLR} (in)
part C pins: 7 GND (power), 14 VCC (power)

## IC_Logic_SN7476
designator U?, comment Inflow: inflow?  (hidden comment: JK, flipflop)
Dual J-K Flip Flop With Set & Reset; Rating: Rating?; Validation: NT; Value: JK, flipflop; Package: Package?; Type: Type?
footprint Dip16 (Footprint not found)
part A pins: 1 CLK, 2 S, 3 R, 4 J, 5 VCC (power), 13 GND (power), 14 ~{Q}, 15 Q, 16 K
part B pins: 6 CLK, 7 S, 8 R, 9 J, 10 ~{Q}, 11 Q, 12 K

## IC_MCU_AT90USB82
designator U?, comment Inflow: 7128  (hidden comment: AT90USB82)
8-Bit microcontroller; Rating: Rating?; Validation: NT; Value: AT90USB82; Package: Package?; Type: Type?
footprint AT90USB82
pins: 1 XTAL1 (in), 2 PC0/XTAL2 (io), 3 GND (power), 4 VCC (power), 5 PC2/PCINT11 (io), 6 PD0/~{INT0}/OC0B (io), 7 PD1/~{INT1}/AIN0 (io), 8 PD2/~{INT2}/AIN1/RXD1 (io), 9 PD3/~{INT3}/TXD1 (io), 10 PD4/INT5 (io), 11 PD5/XCK/PCINT12 (io), 12 PD6/INT6/~{RTS} (io), 13 PD7/~{HWB}/T0/INT7/~{CTS} (io), 14 PB0/~{SS}/PCINT0 (io), 15 PB1/SCLK/PCINT1 (io), 16 PB2/PDI/MOSI/PCINT2 (io), 17 PB3/PDO/MISO/PCINT3 (io), 18 PB4/T1/PCINT4 (io), 19 PB5/PCINT5 (io), 20 PB6/PCINT6 (io), 21 PB7/OC0A/OC1C/PCINT7 (io), 22 PC7/ICP1/INT4/CLKO (io), 23 PC6/PCINT8/OC1A (io), 24 PC1/~{Reset}/dW (io), 25 PC5/PCINT9/OC1B (io), 26 PC4/PCINT10 (io), 27 UCAP (power), 28 UGND (power), 29 D+/SCK (io), 30 D-/SDATA (io), 31 UVCC (power), 32 AVCC (power)

## IC_MCU_ATMEGA8
designator U?, comment Inflow: 1104  (hidden comment: ATMega8)
8-Bit microcontroller; Rating: Rating?; Validation: Valid; Value: ATMega8; Package: Package?; Type: Type?
footprint 28P3 (DIP; 28 Leads; Row Spacing 7.62 mm; Pitch 2.54 mm)
pins: 1 PC6 (~{RESET}) (io), 2 PD0 (RXD) (io), 3 PD1 (TXD) (io), 4 PD2 (INT0) (io), 5 PD3 (INT1) (io), 6 PD4 (XCK/T0) (io), 7 VCC (power), 8 GND (power), 9 PB6 (XTAL1/TOSC1) (io), 10 PB7 (XTAL2/TOSC2) (io), 11 PD5 (T1) (io), 12 PD6 (AIN0) (io), 13 PD7 (AIN1) (io), 14 PB0 (ICP) (io), 15 PB1 (OC1A) (io), 16 PB2 (~{SS}/OC1B) (io), 17 PB3 (MOSI/OC2) (io), 18 PB4 (MISO) (io), 19 PB5 (SCK) (io), 20 AVCC (power), 21 AREF, 22 GND (power), 23 PC0 (ADC0) (io), 24 PC1 (ADC1) (io), 25 PC2 (ADC2) (io), 26 PC3 (ADC3) (io), 27 PC4 (ADC4/SDA) (io), 28 PC5 (ADC5/SCL) (io)

## IC_MCU_ATmega8_SMD
designator U?, comment Inflow: inflow?  (hidden comment: ATmega8)
8-Bit AVR Microcontroller with 8K Bytes of In-System Programmable Flash Memory; Rating: Rating?; Validation: NT; Value: ATmega8; Package: Package?; Type: Type?
footprint 32A_N (Thin QFP, 32-Leads, Body 7x7mm, Pitch 0.8mm, IPC Medium Density)
footprint 32A_L (Thin QFP, 32-Leads, Body 7x7mm, Pitch 0.8mm, IPC High Density)
footprint 32A_M (Thin QFP, 32-Leads, Body 7x7mm, Pitch 0.8mm, IPC Low Density)
pins: 1 PD3 (INT1) (io), 2 PD4 (XCK/T0) (io), 3 GND (power), 4 VCC (power), 5 GND (power), 6 VCC (power), 7 PB6 (XTAL1/TOSC1) (io), 8 PB7 (XTAL2/TOSC2) (io), 9 PD5 (T1) (io), 10 PD6 (AIN0) (io), 11 PD7 (AIN1) (io), 12 PB0 (ICP) (io), 13 PB1 (OC1A) (io), 14 PB2 (~{SS}/OC1B) (io), 15 PB3 (MOSI/OC2) (io), 16 PB4 (MISO) (io), 17 PB5 (SCK) (io), 18 AVCC (power), 19 ADC6 (in), 20 AREF, 21 GND (power), 22 ADC7 (in), 23 PC0 (ADC0) (io), 24 PC1 (ADC1) (io), 25 PC2 (ADC2) (io), 26 PC3 (ADC3) (io), 27 PC4 (ADC4/SDA) (io), 28 PC5 (ADC5/SCL) (io), 29 PC6 (~{RESET}) (io), 30 PD0 (RXD) (io), 31 PD1 (TXD) (io), 32 PD2 (INT0) (io)

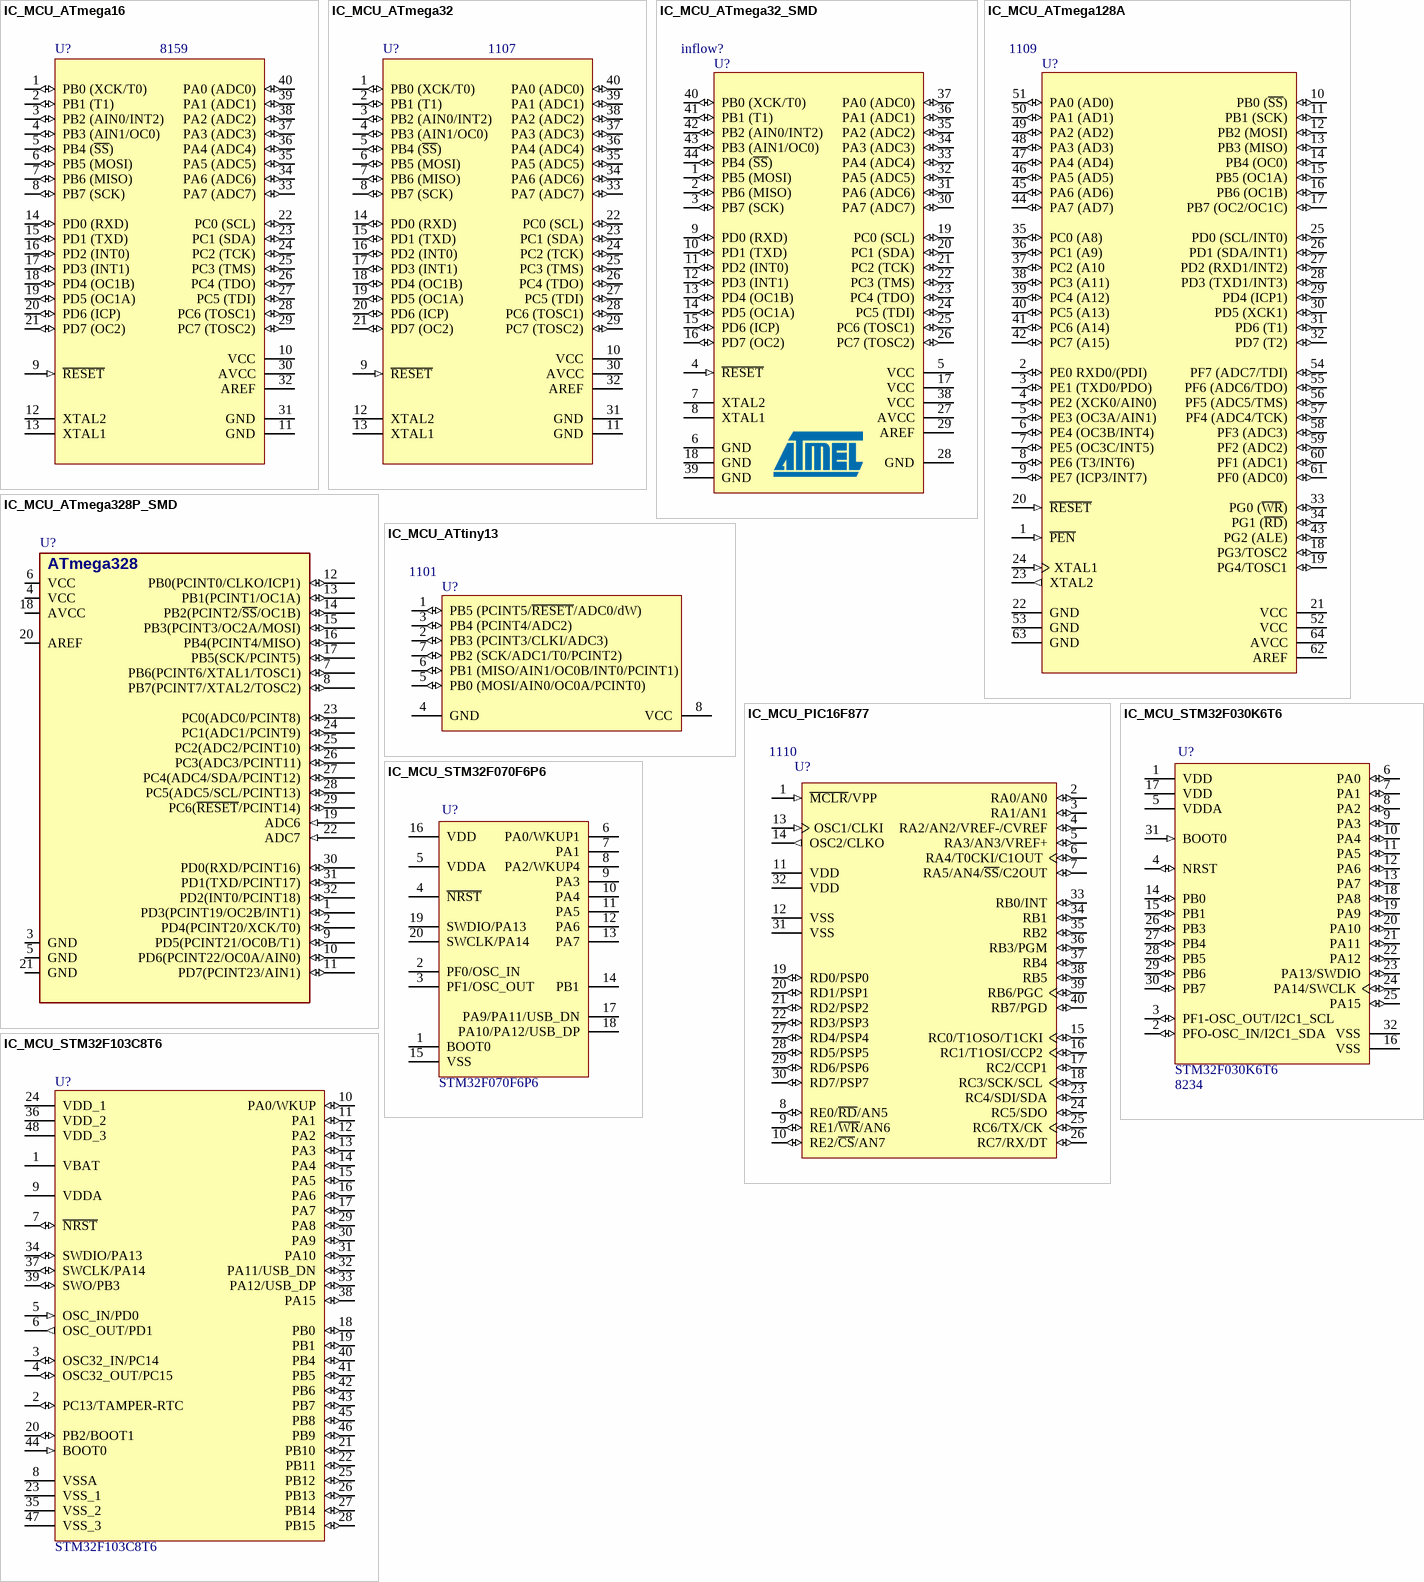
[diagram p3: symbols IC_MCU_ATmega16 to IC_MCU_STM32F103C8T6]

## IC_MCU_ATmega16
designator U?, comment Inflow: 8159  (hidden comment: ATMega16)
8-Bit microcontroller; Rating: Rating?; Validation: Valid; Value: ATMega16; Package: Package?; Type: Type?
footprint PDIP40-600 (40-Pin Plastic DIP (DD40) - WIDE_(600mil width) - 100mil pitch)
pins: 1 PB0 (XCK/T0) (io), 2 PB1 (T1) (io), 3 PB2 (AIN0/INT2) (io), 4 PB3 (AIN1/OC0) (io), 5 PB4 (~{SS}) (io), 6 PB5 (MOSI) (io), 7 PB6 (MISO) (io), 8 PB7 (SCK) (io), 9 ~{RESET} (in), 10 VCC (power), 11 GND (power), 12 XTAL2, 13 XTAL1, 14 PD0 (RXD) (io), 15 PD1 (TXD) (io), 16 PD2 (INT0) (io), 17 PD3 (INT1) (io), 18 PD4 (OC1B) (io), 19 PD5 (OC1A) (io), 20 PD6 (ICP) (io), 21 PD7 (OC2) (io), 22 PC0 (SCL) (io), 23 PC1 (SDA) (io), 24 PC2 (TCK) (io), 25 PC3 (TMS) (io), 26 PC4 (TDO) (io), 27 PC5 (TDI) (io), 28 PC6 (TOSC1) (io), 29 PC7 (TOSC2) (io), 30 AVCC (power), 31 GND (power), 32 AREF, 33 PA7 (ADC7) (io), 34 PA6 (ADC6) (io), 35 PA5 (ADC5) (io), 36 PA4 (ADC4) (io), 37 PA3 (ADC3) (io), 38 PA2 (ADC2) (io), 39 PA1 (ADC1) (io), 40 PA0 (ADC0) (io)

## IC_MCU_ATmega32
designator U?, comment Inflow: 1107  (hidden comment: ATMega32)
8-Bit microcontroller; Rating: Rating?; Validation: Valid; Value: ATMega32; Package: Package?; Type: Type?
footprint PDIP40-600 (40-Pin Plastic DIP (DD40) - WIDE_(600mil width) - 100mil pitch)
pins: 1 PB0 (XCK/T0) (io), 2 PB1 (T1) (io), 3 PB2 (AIN0/INT2) (io), 4 PB3 (AIN1/OC0) (io), 5 PB4 (~{SS}) (io), 6 PB5 (MOSI) (io), 7 PB6 (MISO) (io), 8 PB7 (SCK) (io), 9 ~{RESET} (in), 10 VCC (power), 11 GND (power), 12 XTAL2, 13 XTAL1, 14 PD0 (RXD) (io), 15 PD1 (TXD) (io), 16 PD2 (INT0) (io), 17 PD3 (INT1) (io), 18 PD4 (OC1B) (io), 19 PD5 (OC1A) (io), 20 PD6 (ICP) (io), 21 PD7 (OC2) (io), 22 PC0 (SCL) (io), 23 PC1 (SDA) (io), 24 PC2 (TCK) (io), 25 PC3 (TMS) (io), 26 PC4 (TDO) (io), 27 PC5 (TDI) (io), 28 PC6 (TOSC1) (io), 29 PC7 (TOSC2) (io), 30 AVCC (power), 31 GND (power), 32 AREF, 33 PA7 (ADC7) (io), 34 PA6 (ADC6) (io), 35 PA5 (ADC5) (io), 36 PA4 (ADC4) (io), 37 PA3 (ADC3) (io), 38 PA2 (ADC2) (io), 39 PA1 (ADC1) (io), 40 PA0 (ADC0) (io)

## IC_MCU_ATmega32_SMD
designator U?, comment Inflow: inflow?  (hidden comment: ATmega32)
8-Bit AVR Microcontroller with 32K Bytes of In-System Programmable Flash Memory; Rating: Rating?; Validation: NT; Value: ATmega32; Package: Package?; Type: Type?
footprint 44A_N (Thin QFP, 44-Leads, Body 10x10mm, Pitch 0.8mm, IPC Medium Density)
footprint 44A_L (Thin QFP, 44-Leads, Body 10x10mm, Pitch 0.8mm, IPC High Density)
footprint 44A_M (Thin QFP, 44-Leads, Body 10x10mm, Pitch 0.8mm, IPC Low Density)
pins: 1 PB5 (MOSI) (io), 2 PB6 (MISO) (io), 3 PB7 (SCK) (io), 4 ~{RESET} (in), 5 VCC (power), 6 GND (power), 7 XTAL2, 8 XTAL1, 9 PD0 (RXD) (io), 10 PD1 (TXD) (io), 11 PD2 (INT0) (io), 12 PD3 (INT1) (io), 13 PD4 (OC1B) (io), 14 PD5 (OC1A) (io), 15 PD6 (ICP) (io), 16 PD7 (OC2) (io), 17 VCC (power), 18 GND (power), 19 PC0 (SCL) (io), 20 PC1 (SDA) (io), 21 PC2 (TCK) (io), 22 PC3 (TMS) (io), 23 PC4 (TDO) (io), 24 PC5 (TDI) (io), 25 PC6 (TOSC1) (io), 26 PC7 (TOSC2) (io), 27 AVCC (power), 28 GND (power), 29 AREF, 30 PA7 (ADC7) (io), 31 PA6 (ADC6) (io), 32 PA5 (ADC5) (io), 33 PA4 (ADC4) (io), 34 PA3 (ADC3) (io), 35 PA2 (ADC2) (io), 36 PA1 (ADC1) (io), 37 PA0 (ADC0) (io), 38 VCC (power), 39 GND (power), 40 PB0 (XCK/T0) (io), 41 PB1 (T1) (io), 42 PB2 (AIN0/INT2) (io), 43 PB3 (AIN1/OC0) (io), 44 PB4 (~{SS}) (io)

## IC_MCU_ATmega128A
designator U?, comment Inflow: 1109  (hidden comment: ATMega128)
8-bit microcontroller; Rating: Rating?; Validation: Valid; Value: ATMega128; Package: Package?; Type: Type?
footprint 64A_N (Thin QFP, 64-Leads, Body 14x14mm, Pitch 0.8mm, IPC Medium Density)
footprint 64A_L (Thin QFP, 64-Leads, Body 14x14mm, Pitch 0.8mm, IPC High Density)
footprint 64A_M (Thin QFP, 64-Leads, Body 14x14mm, Pitch 0.8mm, IPC Low Density)
footprint ATMEGA128
pins: 1 ~{PEN} (in), 2 PE0 RXD0/(PDI) (io), 3 PE1 (TXD0/PDO) (io), 4 PE2 (XCK0/AIN0) (io), 5 PE3 (OC3A/AIN1) (io), 6 PE4 (OC3B/INT4) (io), 7 PE5 (OC3C/INT5) (io), 8 PE6 (T3/INT6) (io), 9 PE7 (ICP3/INT7) (io), 10 PB0 (~{SS}) (io), 11 PB1 (SCK) (io), 12 PB2 (MOSI) (io), 13 PB3 (MISO) (io), 14 PB4 (OC0) (io), 15 PB5 (OC1A) (io), 16 PB6 (OC1B) (io), 17 PB7 (OC2/OC1C) (io), 18 PG3/TOSC2 (io), 19 PG4/TOSC1 (io), 20 ~{RESET} (in), 21 VCC (power), 22 GND (power), 23 XTAL2 (out), 24 XTAL1 (in), 25 PD0 (SCL/INT0) (io), 26 PD1 (SDA/INT1) (io), 27 PD2 (RXD1/INT2) (io), 28 PD3 (TXD1/INT3) (io), 29 PD4 (ICP1) (io), 30 PD5 (XCK1) (io), 31 PD6 (T1) (io), 32 PD7 (T2) (io), 33 PG0 (~{WR}) (io), 34 PG1 (~{RD}) (io), 35 PC0 (A8) (io), 36 PC1 (A9) (io), 37 PC2 (A10 (io), 38 PC3 (A11) (io), 39 PC4 (A12) (io), 40 PC5 (A13) (io), 41 PC6 (A14) (io), 42 PC7 (A15) (io), 43 PG2 (ALE) (io), 44 PA7 (AD7) (io), 45 PA6 (AD6) (io), 46 PA5 (AD5) (io), 47 PA4 (AD4) (io), 48 PA3 (AD3) (io), 49 PA2 (AD2) (io), 50 PA1 (AD1) (io), 51 PA0 (AD0) (io), 52 VCC (power), 53 GND (power), 54 PF7 (ADC7/TDI) (io), 55 PF6 (ADC6/TDO) (io), 56 PF5 (ADC5/TMS) (io), 57 PF4 (ADC4/TCK) (io), 58 PF3 (ADC3) (io), 59 PF2 (ADC2) (io), 60 PF1 (ADC1) (io), 61 PF0 (ADC0) (io), 62 AREF (power), 63 GND (power), 64 AVCC (power)

## IC_MCU_ATmega328P_SMD
designator U?, comment ATmega328P  (value not drawn)
8-Bit AVR Microcontroller with 32K Bytes of In-System Programmable Flash Memory; Rating: Rating?; Validation: Valid; Inflow: inflow?; Value: ATmega328P; Package: Package?; Type: Type?
footprint ATMEGA328 (Thin QFP, 32-Leads, Body 7x7mm, Pitch 0.8mm, IPC Low Density)
pins: 1 PD3(PCINT19/OC2B/INT1) (io), 2 PD4(PCINT20/XCK/T0) (io), 3 GND (power), 4 VCC (power), 5 GND (power), 6 VCC (power), 7 PB6(PCINT6/XTAL1/TOSC1) (io), 8 PB7(PCINT7/XTAL2/TOSC2) (io), 9 PD5(PCINT21/OC0B/T1) (io), 10 PD6(PCINT22/OC0A/AIN0) (io), 11 PD7(PCINT23/AIN1) (io), 12 PB0(PCINT0/CLKO/ICP1) (io), 13 PB1(PCINT1/OC1A) (io), 14 PB2(PCINT2/~{SS}/OC1B) (io), 15 PB3(PCINT3/OC2A/MOSI) (io), 16 PB4(PCINT4/MISO) (io), 17 PB5(SCK/PCINT5) (io), 18 AVCC (power), 19 ADC6 (in), 20 AREF, 21 GND (power), 22 ADC7 (in), 23 PC0(ADC0/PCINT8) (io), 24 PC1(ADC1/PCINT9) (io), 25 PC2(ADC2/PCINT10) (io), 26 PC3(ADC3/PCINT11) (io), 27 PC4(ADC4/SDA/PCINT12) (io), 28 PC5(ADC5/SCL/PCINT13) (io), 29 PC6(~{RESET}/PCINT14) (io), 30 PD0(RXD/PCINT16) (io), 31 PD1(TXD/PCINT17) (io), 32 PD2(INT0/PCINT18) (io)
text: ATmega328

## IC_MCU_ATtiny13
designator U?, comment Inflow: 1101  (hidden comment: ATTiny13)
8-Bit microcontroller; Rating: Rating?; Validation: Valid; Value: ATTiny13; Package: Package?; Type: Type?
footprint 8P3 (DIP, 8-Leads, Row Spacing 7.62mm, Pitch 2.54mm, Body 9.59x6.61mm)
footprint 8S2_L (SOP, 8-Leads, Body 5.3x5.3mm, Pitch 1.27mm, IPC High Density)
footprint 8S2_N (SOP, 8-Leads, Body 5.3x5.3mm, Pitch 1.27mm, IPC Medium Density)
footprint 8S2_M (SOP, 8-Leads, Body 5.3x5.3mm, Pitch 1.27mm, IPC Low Density)
footprint 10-MLP-2PIN MID NC (MO-229, 10-Leads, Body 3x3mm)
pins: 1 PB5 (PCINT5/~{RESET}/ADC0/dW) (io), 2 PB3 (PCINT3/CLKI/ADC3) (io), 3 PB4 (PCINT4/ADC2) (io), 4 GND (power), 5 PB0 (MOSI/AIN0/OC0A/PCINT0) (io), 6 PB1 (MISO/AIN1/OC0B/INT0/PCINT1) (io), 7 PB2 (SCK/ADC1/T0/PCINT2) (io), 8 VCC (power)

## IC_MCU_PIC16F877
designator U?, comment Inflow: 1110  (hidden comment: PIC16F877)
8-Bit microcontroller; Rating: Rating?; Validation: NT; Value: PIC16F877; Package: Package?; Type: Type?
footprint 40P6 (DIP, 40-Leads, Row Spacing 15.24mm, Pitch 2.54mm, Body 52.2x13.95mm)
footprint PDIP40-600 (40-Pin Plastic DIP (DD40) - WIDE_(600mil width) - 100mil pitch)
pins: 1 ~{MCLR}/VPP (in), 2 RA0/AN0 (io), 3 RA1/AN1 (io), 4 RA2/AN2/VREF-/CVREF (io), 5 RA3/AN3/VREF+ (io), 6 RA4/T0CKI/C1OUT (io), 7 RA5/AN4/~{SS}/C2OUT (io), 8 RE0/~{RD}/AN5 (io), 9 RE1/~{WR}/AN6 (io), 10 RE2/~{CS}/AN7 (io), 11 VDD (power), 12 VSS (power), 13 OSC1/CLKI (in), 14 OSC2/CLKO (out), 15 RC0/T1OSO/T1CKI (io), 16 RC1/T1OSI/CCP2 (io), 17 RC2/CCP1 (io), 18 RC3/SCK/SCL (io), 19 RD0/PSP0 (io), 20 RD1/PSP1 (io), 21 RD2/PSP2 (io), 22 RD3/PSP3 (io), 23 RC4/SDI/SDA (io), 24 RC5/SDO (io), 25 RC6/TX/CK (io), 26 RC7/RX/DT (io), 27 RD4/PSP4 (io), 28 RD5/PSP5 (io), 29 RD6/PSP6 (io), 30 RD7/PSP7 (io), 31 VSS (power), 32 VDD (power), 33 RB0/INT (io), 34 RB1 (io), 35 RB2 (io), 36 RB3/PGM (io), 37 RB4 (io), 38 RB5 (io), 39 RB6/PGC (io), 40 RB7/PGD (io)

## IC_MCU_STM32F030K6T6
designator U?, comment Inflow: 8234  (hidden comment: STM32F030K6T6)
32-Bit microcontroller; Rating: Rating?; Validation: NT; Package: SMD; Type: Cortex-M0; Value: STM32F030K6T6
footprint STM32F030K6T6
pins: 1 VDD (power), 2 PFO-OSC_IN/I2C1_SDA (io), 3 PF1-OSC_OUT/I2C1_SCL (io), 4 NRST (io), 5 VDDA (power), 6 PA0 (io), 7 PA1 (io), 8 PA2 (io), 9 PA3 (io), 10 PA4 (io), 11 PA5 (io), 12 PA6 (io), 13 PA7 (io), 14 PB0 (io), 15 PB1 (io), 16 VSS (power), 17 VDD (power), 18 PA8 (io), 19 PA9 (io), 20 PA10 (io), 21 PA11 (io), 22 PA12 (io), 23 PA13/SWDIO (io), 24 PA14/SWCLK (io), 25 PA15 (io), 26 PB3 (io), 27 PB4 (io), 28 PB5 (io), 29 PB6 (io), 30 PB7 (io), 31 BOOT0 (in), 32 VSS (power)

## IC_MCU_STM32F070F6P6
designator U?, comment STM32F070F6P6
32-Bit microcontroller; Rating: Rating?; Inflow: inflow?; Validation: NT; Package: SMD; Type: Cortex-M0; Value: STM32F070F6P6
footprint TSSOP-20
pins: 1 BOOT0, 2 PF0/OSC_IN, 3 PF1/OSC_OUT, 4 ~{NRST}, 5 VDDA, 6 PA0/WKUP1, 7 PA1, 8 PA2/WKUP4, 9 PA3, 10 PA4, 11 PA5, 12 PA6, 13 PA7, 14 PB1, 15 VSS, 16 VDD, 17 PA9/PA11/USB_DN, 18 PA10/PA12/USB_DP, 19 SWDIO/PA13, 20 SWCLK/PA14

## IC_MCU_STM32F103C8T6
designator U?, comment STM32F103C8T6
32-Bit mircrocontroller; Validation: Valid; Rating: CORTEX-M3; Inflow: inflow?; Type: Microcontroller; Package: LQFP48; Value: STM32F103C8T6
footprint LQFP48_N (Thin QFP, 48-Leads, Body 7x7mm, Pitch 0.5mm, IPC Medium Density)
footprint LQFP48_L (LQFP, 48-Leads, Body 9.1x9.1mm (max), Pitch 0.50mm, IPC High Density)
footprint LQFP48_M (Thin QFP, 48-Leads, Body 7x7mm, Pitch 0.5mm, IPC Low Density)
pins: 1 VBAT (power), 2 PC13/TAMPER-RTC (io), 3 OSC32_IN/PC14 (io), 4 OSC32_OUT/PC15 (io), 5 OSC_IN/PD0 (in), 6 OSC_OUT/PD1 (out), 7 ~{NRST} (io), 8 VSSA (power), 9 VDDA (power), 10 PA0/WKUP (io), 11 PA1 (io), 12 PA2 (io), 13 PA3 (io), 14 PA4 (io), 15 PA5 (io), 16 PA6 (io), 17 PA7 (io), 18 PB0 (io), 19 PB1 (io), 20 PB2/BOOT1 (io), 21 PB10 (io), 22 PB11 (io), 23 VSS_1 (power), 24 VDD_1 (power), 25 PB12 (io), 26 PB13 (io), 27 PB14 (io), 28 PB15 (io), 29 PA8 (io), 30 PA9 (io), 31 PA10 (io), 32 PA11/USB_DN (io), 33 PA12/USB_DP (io), 34 SWDIO/PA13 (io), 35 VSS_2 (power), 36 VDD_2 (power), 37 SWCLK/PA14 (io), 38 PA15 (io), 39 SWO/PB3 (io), 40 PB4 (io), 41 PB5 (io), 42 PB6 (io), 43 PB7 (io), 44 BOOT0 (in), 45 PB8 (io), 46 PB9 (io), 47 VSS_3 (power), 48 VDD_3 (power)

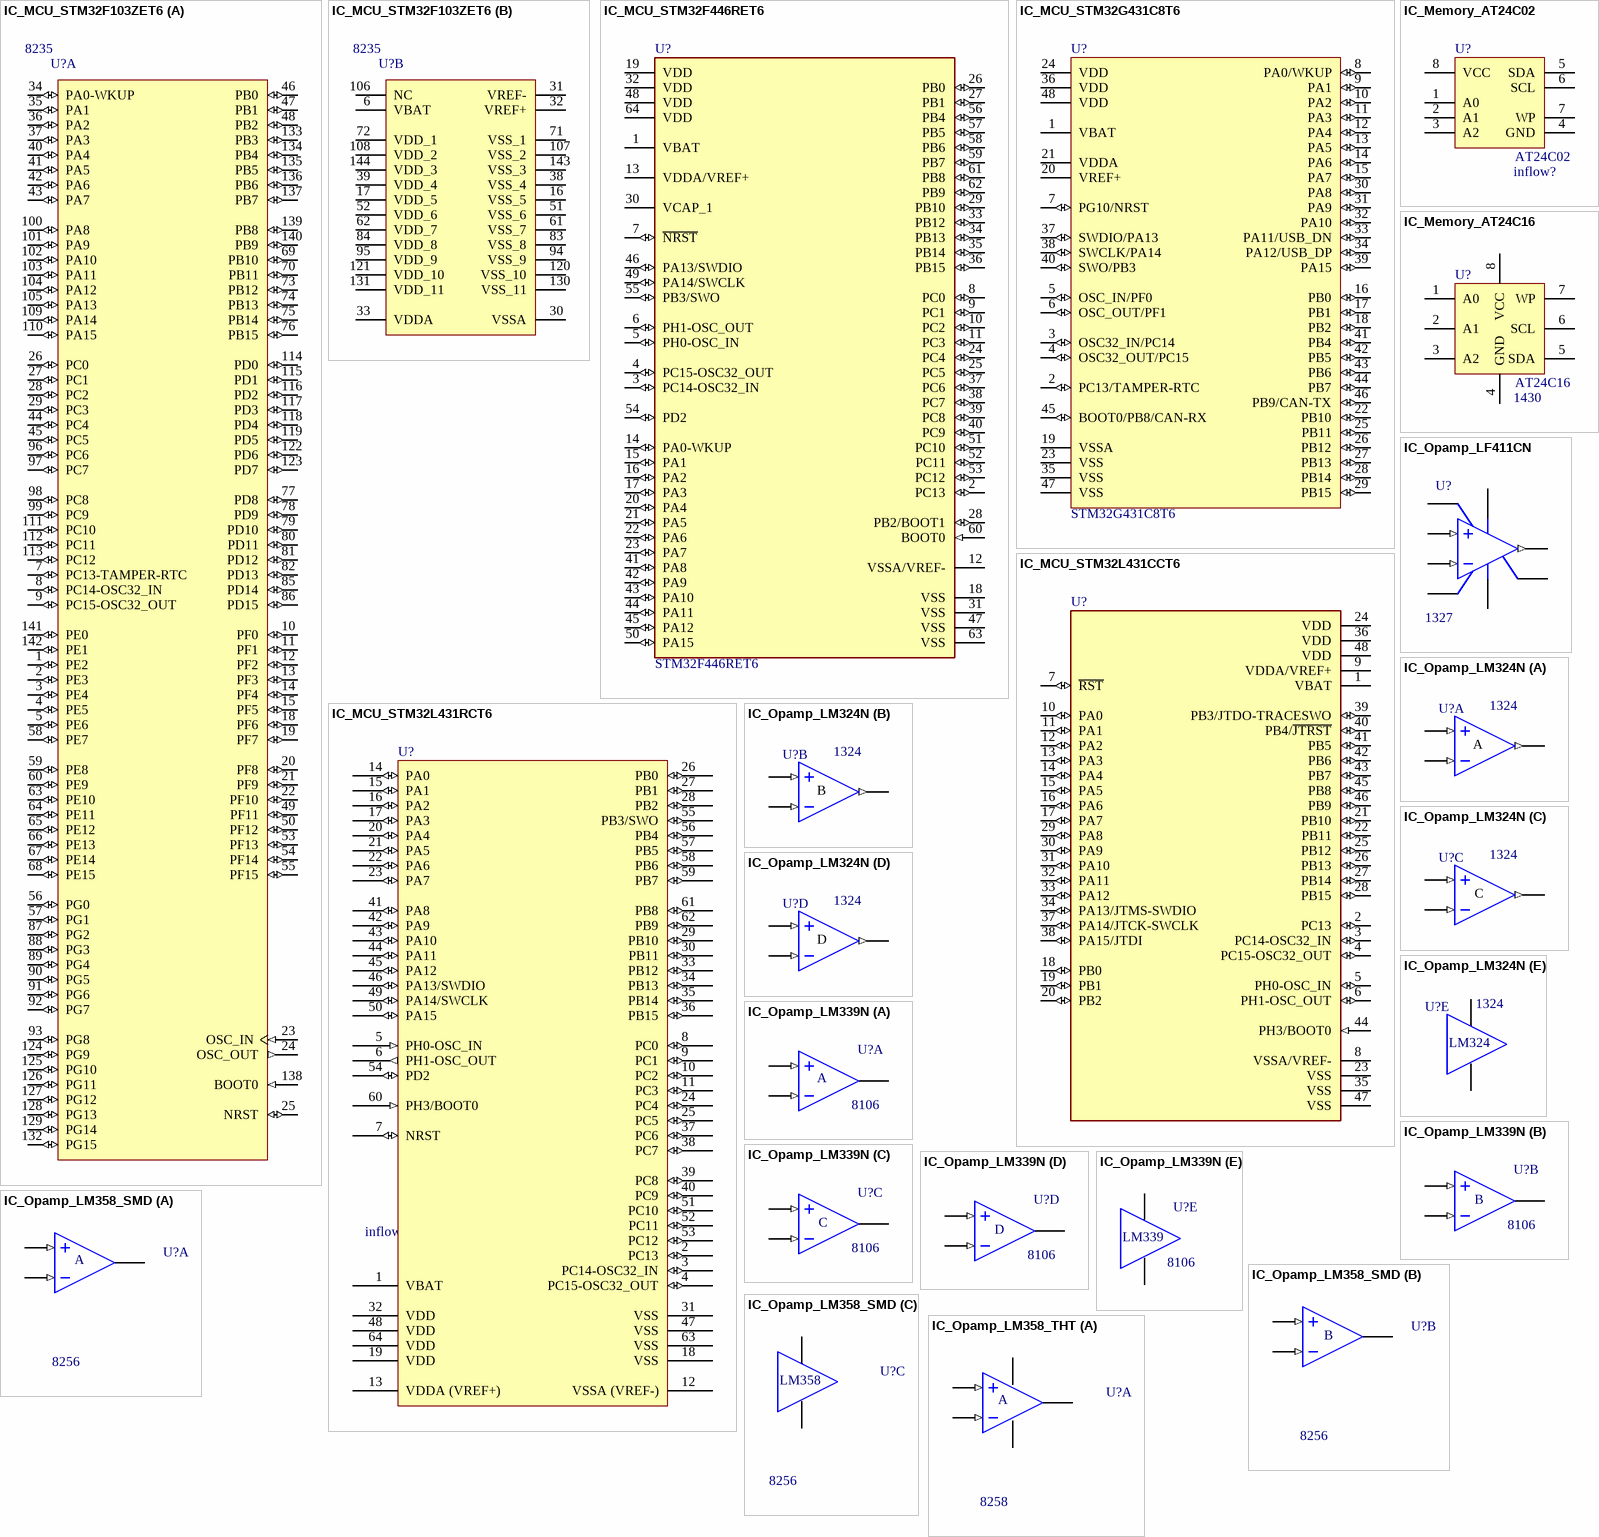
[diagram p4: symbols IC_MCU_STM32F103ZET6 to IC_Opamp_LM358_THT]

## IC_MCU_STM32F103ZET6
designator U?, comment Inflow: 8235  (hidden comment: STM32F103ZET6)
32-Bit mircrocontroller; Rating: Rating?; Validation: NT; Value: STM32F103ZET6; Package: Package?; Type: Type?
footprint LQFP144_N (Thin QFP, 144-Leads, Body 20x20mm, Pitch 0.5mm, IPC Medium Density)
footprint LQFP144_L (Thin QFP, 144-Leads, Body 20x20mm, Pitch 0.5mm, IPC High Density)
footprint LQFP144_M (Thin QFP, 144-Leads, Body 20x20mm, Pitch 0.5mm, IPC Low Density)
part A pins: 1 PE2 (io), 2 PE3 (io), 3 PE4 (io), 4 PE5 (io), 5 PE6 (io), 7 PC13-TAMPER-RTC (io), 8 PC14-OSC32_IN (io), 9 PC15-OSC32_OUT (io), 10 PF0 (io), 11 PF1 (io), 12 PF2 (io), 13 PF3 (io), 14 PF4 (io), 15 PF5 (io), 18 PF6 (io), 19 PF7 (io), 20 PF8 (io), 21 PF9 (io), 22 PF10 (io), 23 OSC_IN (in), 24 OSC_OUT (out), 25 NRST (io), 26 PC0 (io), 27 PC1 (io), 28 PC2 (io), 29 PC3 (io), 34 PA0-WKUP (io), 35 PA1 (io), 36 PA2 (io), 37 PA3 (io), 40 PA4 (io), 41 PA5 (io), 42 PA6 (io), 43 PA7 (io), 44 PC4 (io), 45 PC5 (io), 46 PB0 (io), 47 PB1 (io), 48 PB2 (io), 49 PF11 (io), 50 PF12 (io), 53 PF13 (io), 54 PF14 (io), 55 PF15 (io), 56 PG0 (io), 57 PG1 (io), 58 PE7 (io), 59 PE8 (io), 60 PE9 (io), 63 PE10 (io), 64 PE11 (io), 65 PE12 (io), 66 PE13 (io), 67 PE14 (io), 68 PE15 (io), 69 PB10 (io), 70 PB11 (io), 73 PB12 (io), 74 PB13 (io), 75 PB14 (io), 76 PB15 (io), 77 PD8 (io), 78 PD9 (io), 79 PD10 (io), 80 PD11 (io), 81 PD12 (io), 82 PD13 (io), 85 PD14 (io), 86 PD15 (io), 87 PG2 (io), 88 PG3 (io), 89 PG4 (io), 90 PG5 (io), 91 PG6 (io), 92 PG7 (io), 93 PG8 (io), 96 PC6 (io), 97 PC7 (io), 98 PC8 (io), 99 PC9 (io), 100 PA8 (io), 101 PA9 (io), 102 PA10 (io), 103 PA11 (io), 104 PA12 (io), 105 PA13 (io), 109 PA14 (io), 110 PA15 (io), 111 PC10 (io), 112 PC11 (io), 113 PC12 (io), 114 PD0 (io), 115 PD1 (io), 116 PD2 (io), 117 PD3 (io), 118 PD4 (io), 119 PD5 (io), 122 PD6 (io), 123 PD7 (io), 124 PG9 (io), 125 PG10 (io), 126 PG11 (io), 127 PG12 (io), 128 PG13 (io), 129 PG14 (io), 132 PG15 (io), 133 PB3 (io), 134 PB4 (io), 135 PB5 (io), 136 PB6 (io), 137 PB7 (io), 138 BOOT0 (in), 139 PB8 (io), 140 PB9 (io), 141 PE0 (io), 142 PE1 (io)
part B pins: 6 VBAT (power), 16 VSS_5 (power), 17 VDD_5 (power), 30 VSSA (power), 31 VREF- (power), 32 VREF+ (power), 33 VDDA (power), 38 VSS_4 (power), 39 VDD_4 (power), 51 VSS_6 (power), 52 VDD_6 (power), 61 VSS_7 (power), 62 VDD_7 (power), 71 VSS_1 (power), 72 VDD_1 (power), 83 VSS_8 (power), 84 VDD_8 (power), 94 VSS_9 (power), 95 VDD_9 (power), 106 NC, 107 VSS_2 (power), 108 VDD_2 (power), 120 VSS_10 (power), 121 VDD_10 (power), 130 VSS_11 (power), 131 VDD_11 (power), 143 VSS_3 (power), 144 VDD_3 (power)

## IC_MCU_STM32F446RET6
designator U?, comment STM32F446RET6
32-Bit microcontroller; Rating: Rating?; Inflow: inflow?; Validation: Valid; Package: LQFP64; Type: Type?; Value: STM32F446RET6
footprint LQFP64_L (Thin QFP, 64-Leads, Body 10x10mm, Pitch 0.5mm, IPC High Density)
footprint LQFP64_N (Thin QFP, 64-Leads, Body 10x10mm, Pitch 0.5mm, IPC Medium Density)
footprint LQFP64_M (Thin QFP, 64-Leads, Body 10x10mm, Pitch 0.5mm, IPC Low Density)
pins: 1 VBAT (power), 2 PC13 (io), 3 PC14-OSC32_IN (io), 4 PC15-OSC32_OUT (io), 5 PH0-OSC_IN (io), 6 PH1-OSC_OUT (io), 7 ~{NRST} (io), 8 PC0 (io), 9 PC1 (io), 10 PC2 (io), 11 PC3 (io), 12 VSSA/VREF- (power), 13 VDDA/VREF+ (power), 14 PA0-WKUP (io), 15 PA1 (io), 16 PA2 (io), 17 PA3 (io), 18 VSS (power), 19 VDD (power), 20 PA4 (io), 21 PA5 (io), 22 PA6 (io), 23 PA7 (io), 24 PC4 (io), 25 PC5 (io), 26 PB0 (io), 27 PB1 (io), 28 PB2/BOOT1 (io), 29 PB10 (io), 30 VCAP_1 (power), 31 VSS (power), 32 VDD (power), 33 PB12 (io), 34 PB13 (io), 35 PB14 (io), 36 PB15 (io), 37 PC6 (io), 38 PC7 (io), 39 PC8 (io), 40 PC9 (io), 41 PA8 (io), 42 PA9 (io), 43 PA10 (io), 44 PA11 (io), 45 PA12 (io), 46 PA13/SWDIO (io), 47 VSS (power), 48 VDD (power), 49 PA14/SWCLK (io), 50 PA15 (io), 51 PC10 (io), 52 PC11 (io), 53 PC12 (io), 54 PD2 (io), 55 PB3/SWO (io), 56 PB4 (io), 57 PB5 (io), 58 PB6 (io), 59 PB7 (io), 60 BOOT0 (in), 61 PB8 (io), 62 PB9 (io), 63 VSS (power), 64 VDD (power)